# Altium schematic symbol library AMZ_Altium_Lib.SchLib: 396 symbols (part 1 of 3)
Pins are listed as number, name and electrical type; pins without a type are passive.

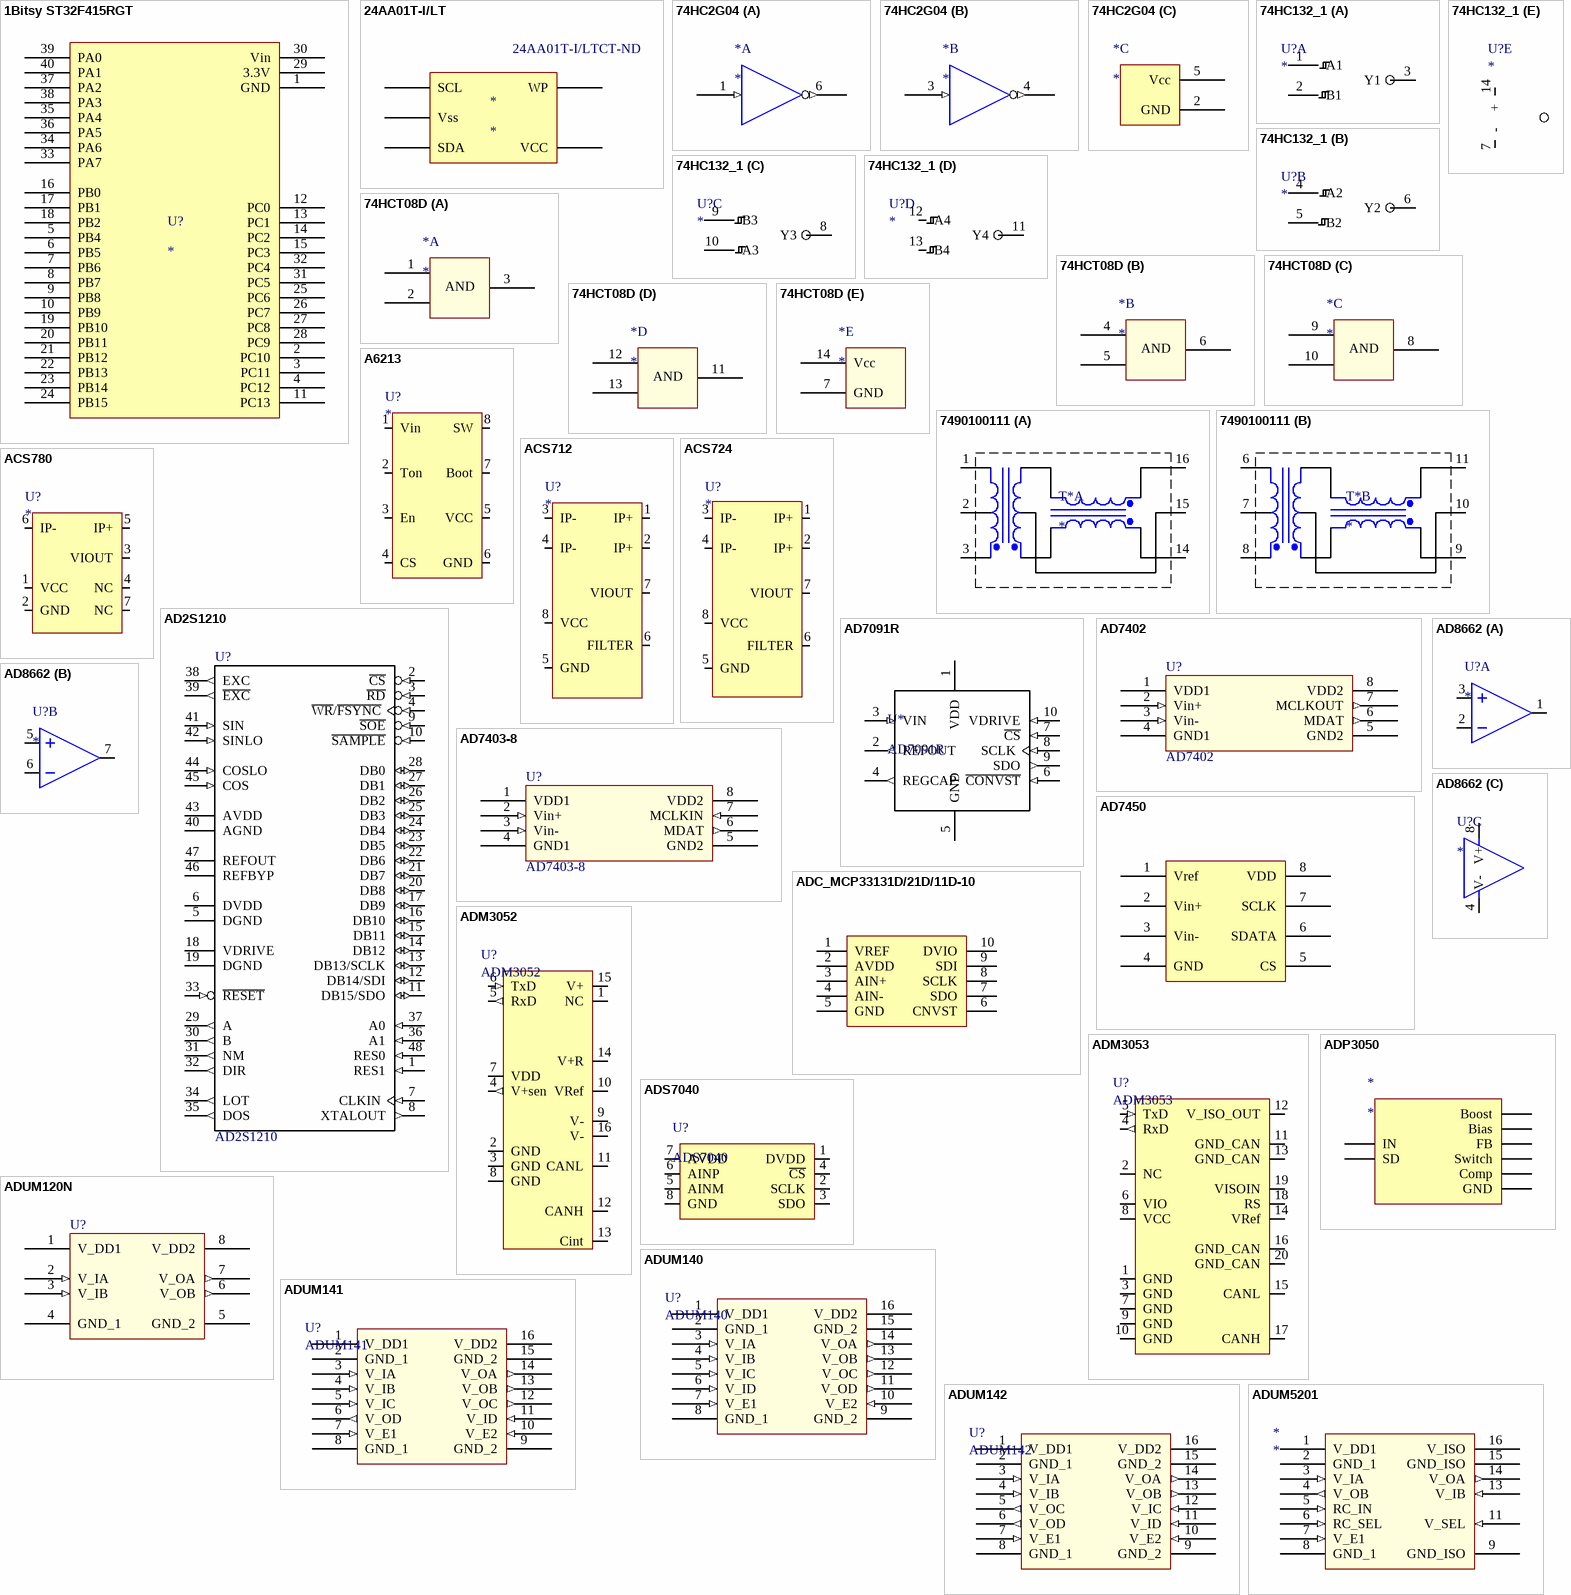
[diagram p0: symbols 1Bitsy ST32F415RGT to ADUM5201]

## 1Bitsy ST32F415RGT
designator U?
1Bitsy ST32F415RGT
footprint 1Bitsy (1Bitsy STM32F415RGT)
pins: 1 GND (power), 2 PC10, 3 PC11, 4 PC12, 5 PB4, 6 PB5, 7 PB6, 8 PB7, 9 PB8, 10 PB9, 11 PC13, 12 PC0, 13 PC1, 14 PC2, 15 PC3, 16 PB0, 17 PB1, 18 PB2, 19 PB10, 20 PB11, 21 PB12, 22 PB13, 23 PB14, 24 PB15, 25 PC6, 26 PC7, 27 PC8, 28 PC9, 29 3.3V (power), 30 Vin (power), 31 PC5, 32 PC4, 33 PA7, 34 PA6, 35 PA4, 36 PA5, 37 PA2, 38 PA3, 39 PA0, 40 PA1

## 24AA01T-I/LT
designator *  Supplier Part Number 1: 24AA01T-I/LTCT-ND
IC EEPROM 1KBIT 400KHZ SC70-5; Manufacturer: Microchip Technology; Manufacturer Part Number: 24AA01T-I/LT; Format - Memory: EEPROMs - Serial; Memory Size: 1K (128 x 8); Speed: 100kHz, 400kHz; Interface: I²C, 2-Wire Serial; Voltage - Supply: 1.7 V ~ 5.5 V; Supplier 1: Digi-Key; RoHS: RoHS Compliant; Category: Integrated Circuits (ICs); Stock 1: 4961; Pricing 1: 1=0.22, 25=0.21, 100=0.2 (USD); Packaging: Cut Tape (CT); Memory Type: EEPROM; Operating Temperature: -40°C ~ 85°C; Package / Case: 5-TSSOP, SC-70-5, SOT-353; Supplier Device Package: SC-70-5; ComponentLink1URL: http://www.microchip.com/mymicrochip/filehandler.aspx?ddocname=en011831; ComponentLink1Description: http://www.microchip.com/mymicrochip/filehandler.aspx?ddocname=en011831
pins: 1 SCL, 2 Vss, 3 SDA, 4 VCC, 5 WP

## 74HC2G04
designator *
3D model Model Name (Model Description)
simulation model Model Name (Model Description)
ibis Model Name (Model Description)
ibis Model Name (Model Description)
ibis Model Name (Model Description)
signal-integrity model Model Name (Model Description)
part A pins: 1 (in), 6 (out)
part B pins: 3 (in), 4 (out)
part C pins: 2 GND (power), 5 Vcc (power)

## 74HC132_1
designator U?
footprint SO-14
part A pins: 1 A1, 2 B1, 3 Y1
part B pins: 4 A2, 5 B2, 6 Y2
part C pins: 8 Y3, 9 B3, 10 A3
part D pins: 11 Y4, 12 A4, 13 B4
part E pins: 7 -, 14 +

## 74HCT08D
designator *
part A pins: 1 101 (power), 2 102 (power), 3 103 (power)
part B pins: 4 101 (power), 5 102 (power), 6 103 (power)
part C pins: 8 103 (power), 9 101 (power), 10 102 (power)
part D pins: 11 103 (power), 12 101 (power), 13 102 (power)
part E pins: 7 GND (power), 14 Vcc (power)
part A text: AND
part B text: AND
part C text: AND
part D text: AND

## 7490100111
designator T*
part A pins: 1 TD+, 2 CTD, 3 TD-, 14 TX-, 15 CTX, 16 TX+
part B pins: 6 RD+, 7 CRD, 8 RD-, 9 RX-, 10 CRX, 11 RX+

## A6213
designator U?
Allegro A6213 3A LED Driver
footprint SOIC8
pins: 1 Vin, 2 Ton, 3 En, 4 CS, 5 VCC, 6 GND, 7 Boot, 8 SW

## ACS712
designator U?
Strommessung
pins: 1 IP+, 2 IP+, 3 IP-, 4 IP-, 5 GND, 6 FILTER, 7 VIOUT, 8 VCC

## ACS724
designator U?
Strommessung
pins: 1 IP+, 2 IP+, 3 IP-, 4 IP-, 5 GND, 6 FILTER, 7 VIOUT, 8 VCC

## ACS780
designator U?
Strommessung
footprint 7-PIN_PSOF
pins: 1 VCC, 2 GND, 3 VIOUT, 4 NC, 5 IP+, 6 IP-, 7 NC

## AD2S1210
designator U?
Variable Resolution, 10-Bit to 16-Bit R/D Converter with Reference Oscillator
footprint LQFP48_0.5
pins: 1 RES1 (in), 2 ~{CS} (in), 3 ~{RD} (in), 4 ~{WR}/~{FSYNC} (in), 5 DGND (power), 6 DVDD (power), 7 CLKIN (in), 8 XTALOUT (out), 9 ~{SOE} (in), 10 ~{SAMPLE} (in), 11 DB15/SDO (io), 12 DB14/SDI (io), 13 DB13/SCLK (io), 14 DB12 (io), 15 DB11 (io), 16 DB10 (io), 17 DB9 (io), 18 VDRIVE (power), 19 DGND (power), 20 DB8 (io), 21 DB7 (io), 22 DB6 (io), 23 DB5 (io), 24 DB4 (io), 25 DB3 (io), 26 DB2 (io), 27 DB1 (io), 28 DB0 (io), 29 A (out), 30 B (out), 31 NM (out), 32 DIR (out), 33 ~{RESET} (in), 34 LOT (out), 35 DOS (out), 36 A1 (in), 37 A0 (in), 38 EXC (out), 39 ~{EXC} (out), 40 AGND (power), 41 SIN (in), 42 SINLO (in), 43 AVDD (power), 44 COSLO (in), 45 COS (in), 46 REFBYP (power), 47 REFOUT (power), 48 RES0 (in)

## AD7091R
designator U*
1 MSPS, Ultralow Power, 12-Bit ADC in 10-Lead LFCSP and MSOP
footprint MSOP-10_0.5 (MSOP with 0.5mm pin spacing)
footprint LFCSP-10 (MSOP with 0.5mm pin spacing)
pins: 1 VDD, 2 REFOUT (out), 3 VIN (in), 4 REGCAP (out), 5 GND, 6 ~{CONVST} (in), 7 ~{CS} (in), 8 SCLK (in), 9 SDO (out), 10 VDRIVE (in)

## AD7402
designator U?
16 Bit, / Isolated Sigma / Delta Modulator; ComponentLink1Description: Datasheet; ComponentLink1URL: https://www.analog.com/media/en/technical-documentation/data-sheets/AD7402.pdf
footprint SOIC-8-IC
pins: 1 VDD1, 2 Vin+ (in), 3 Vin- (in), 4 GND1, 5 GND2, 6 MDAT (out), 7 MCLKOUT (out), 8 VDD2

## AD7403-8
designator U?
16 Bit, / Isolated Sigma / Delta Modulator; ComponentLink1Description: Datasheet; ComponentLink1URL: https://www.analog.com/media/en/technical-documentation/data-sheets/AD7402.pdf
footprint SOIC-8-IC
pins: 1 VDD1, 2 Vin+ (in), 3 Vin- (in), 4 GND1, 5 GND2, 6 MDAT (out), 7 MCLKIN (in), 8 VDD2

## AD7450
designator P?
Differential Input, 1 MSPS / 12-Bit ADC in /  / SOIC-8 and SO-8
footprint HEADER_84_versetzt (Header 84 Pin 100mil)
pins: 1 Vref, 2 Vin+, 3 Vin-, 4 GND, 5 CS, 6 SDATA, 7 SCLK, 8 VDD

## AD8662
designator U?
AD8662
footprint SOIC8
part A pins: 1 Out D, 2 -In D, 3 +In D
part B pins: 5 +In D, 6 -In D, 7 Out D
part C pins: 4 V-, 8 V+

## ADC_MCP33131D/21D/11D-10
designator P?
1 Msps 16/14/12-Bit Differential Input SAR / ADC; ComponentLink1Description: Datasheet; ComponentLink1URL: https://www.mouser.com/datasheet/2/268/MCP33131D_21D_11D-10-Data-Sheet-DS20005947A-1316613.pdf
footprint MSOP-10_0.5 (MSOP with 0.5mm pin spacing)
pins: 1 VREF, 2 AVDD, 3 AIN+, 4 AIN-, 5 GND, 6 CNVST, 7 SDO, 8 SCLK, 9 SDI, 10 DVIO

## ADM3052
designator U?
Isolated CAN Transceiver with Integrated High Voltage, Bus-Side, Linear Regulator
footprint SOIC16_DW
pins: 1 NC, 2 GND (power), 3 GND (power), 4 V+sen (out), 5 RxD (out), 6 TxD (in), 7 VDD (power), 8 GND (power), 9 V- (power), 10 VRef, 11 CANL (io), 12 CANH (io), 13 Cint, 14 V+R (power), 15 V+ (power), 16 V- (power)

## ADM3053
designator U?
Signal and Power Isolated CAN Transceiver / with Integrated Isolated DC-to-DC Converter
footprint SOIC20_DW
pins: 1 GND (power), 2 NC, 3 GND (power), 4 RxD (out), 5 TxD (in), 6 VIO (power), 7 GND (power), 8 VCC (power), 9 GND (power), 10 GND (power), 11 GND_CAN (power), 12 V_ISO_OUT (power), 13 GND_CAN (power), 14 VRef, 15 CANL (io), 16 GND_CAN (power), 17 CANH (io), 18 RS (power), 19 VISOIN (power), 20 GND_CAN (power)

## ADP3050
designator *
footprint SOIC8
pins: 1 Switch, 2 Boost, 3 Bias, 4 FB, 5 Comp, 6 SD, 7 GND, 8 IN

## ADS7040
designator U?
Ultra-Low Power, Ultra-Small Size, 8-Bit, 1-MSPS, SAR ADC
footprint VSSOP8_DCU/DDU
pins: 1 DVDD, 2 SCLK, 3 SDO, 4 ~{CS}, 5 AINM, 6 AINP, 7 AVDD, 8 GND

## ADUM120N
designator U?
2 Channels Digital Isolator; ComponentLink1Description: Datasheet; ComponentLink1URL: https://www.analog.com/media/en/technical-documentation/data-sheets/ADuM120N_121N.pdf
footprint SOIC8
pins: 1 V_DD1, 2 V_IA (in), 3 V_IB (in), 4 GND_1, 5 GND_2, 6 V_OB (out), 7 V_OA (out), 8 V_DD2

## ADUM140
designator U?
3.0 kV RMS/3.75 kV RMS  Quad Digital Isolators
footprint SOIC16_DW
pins: 1 V_DD1, 2 GND_1, 3 V_IA (in), 4 V_IB (in), 5 V_IC (in), 6 V_ID (in), 7 V_E1 (in), 8 GND_1, 9 GND_2, 10 V_E2 (in), 11 V_OD (out), 12 V_OC (out), 13 V_OB (out), 14 V_OA (out), 15 GND_2, 16 V_DD2

## ADUM141
designator U?
3.0 kV RMS/3.75 kV RMS  Quad Digital Isolators
footprint SOIC16_DW
pins: 1 V_DD1, 2 GND_1, 3 V_IA (in), 4 V_IB (in), 5 V_IC (in), 6 V_OD (out), 7 V_E1 (in), 8 GND_1, 9 GND_2, 10 V_E2 (in), 11 V_ID (in), 12 V_OC (out), 13 V_OB (out), 14 V_OA (out), 15 GND_2, 16 V_DD2

## ADUM142
designator U?
3.0 kV RMS/3.75 kV RMS  Quad Digital Isolators
footprint SOIC16_DW
pins: 1 V_DD1, 2 GND_1, 3 V_IA (in), 4 V_IB (in), 5 V_OC (out), 6 V_OD (out), 7 V_E1 (in), 8 GND_1, 9 GND_2, 10 V_E2 (in), 11 V_ID (in), 12 V_IC (in), 13 V_OB (out), 14 V_OA (out), 15 GND_2, 16 V_DD2

## ADUM5201
designator *
footprint SOIC_W
pins: 1 V_DD1, 2 GND_1, 3 V_IA (in), 4 V_OB (out), 5 RC_IN (in), 6 RC_SEL (in), 7 V_E1 (in), 8 GND_1, 9 GND_ISO, 11 V_SEL (in), 13 V_IB (in), 14 V_OA (out), 15 GND_ISO, 16 V_ISO

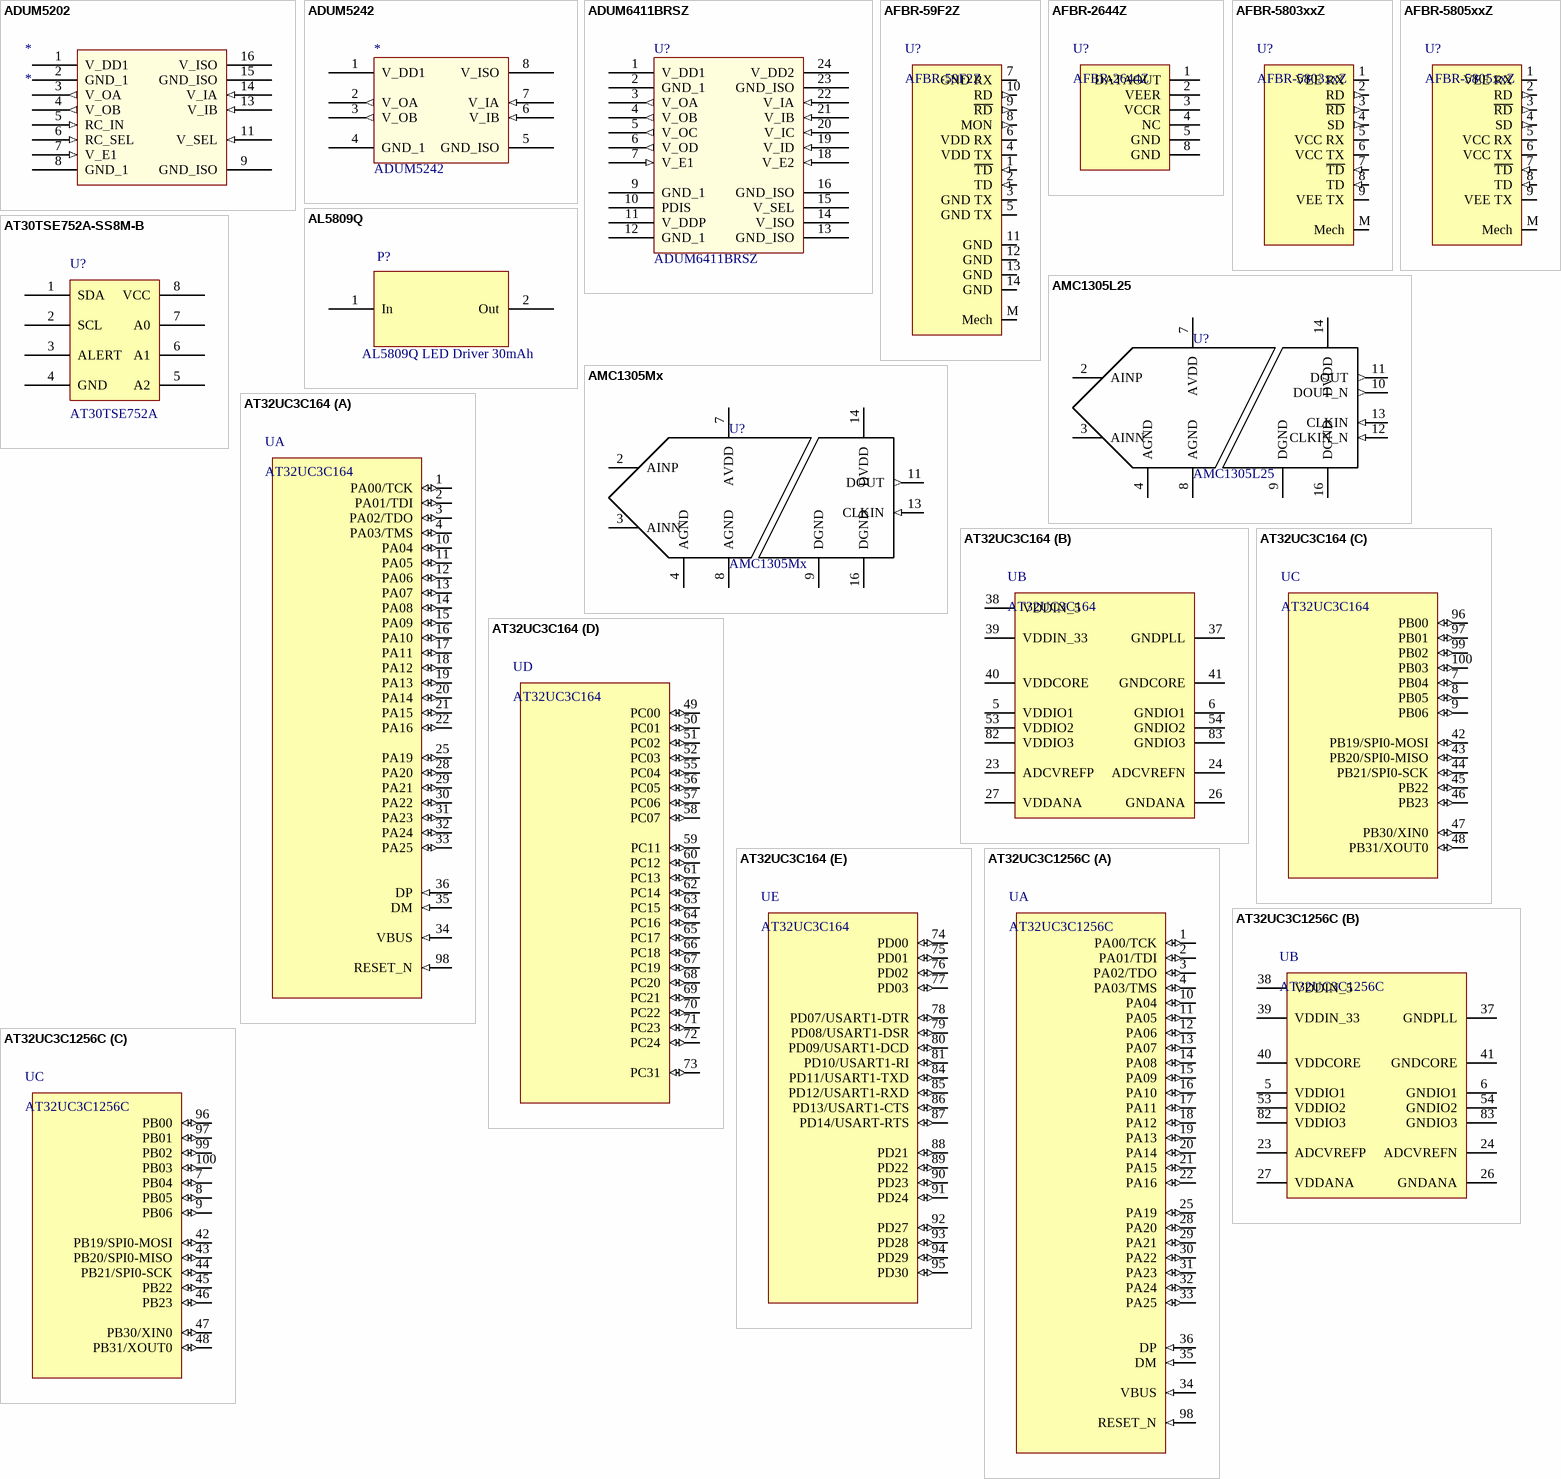
[diagram p1: symbols ADUM5202 to AT32UC3C1256C]

## ADUM5202
designator *
pins: 1 V_DD1, 2 GND_1, 3 V_OA (out), 4 V_OB (out), 5 RC_IN (in), 6 RC_SEL (in), 7 V_E1 (in), 8 GND_1, 9 GND_ISO, 10 NC hidden, 11 V_SEL (in), 12 NC hidden, 13 V_IB (in), 14 V_IA (in), 15 GND_ISO, 16 V_ISO

## ADUM5242
designator *
footprint SOIC8
pins: 1 V_DD1, 2 V_OA (out), 3 V_OB (out), 4 GND_1, 5 GND_ISO, 6 V_IB (in), 7 V_IA (in), 8 V_ISO

## ADUM6411BRSZ
designator U?
footprint SSOP-24
pins: 1 V_DD1, 2 GND_1, 3 V_OA (out), 4 V_OB (out), 5 V_OC (out), 6 V_OD (out), 7 V_E1 (in), 9 GND_1, 10 PDIS, 11 V_DDP, 12 GND_1, 13 GND_ISO, 14 V_ISO, 15 V_SEL, 16 GND_ISO, 18 V_E2 (in), 19 V_ID (in), 20 V_IC (in), 21 V_IB (in), 22 V_IA (in), 23 GND_ISO, 24 V_DD2

## AFBR-59F2Z
designator U?
250MBd Compact 650nm Transceiver for / Data communication over Polymer Optical Fiber / (POF) cables with a bare fiber locking system
footprint AFBR-59F (Transceiver for Data communication over Polymer Optical Fiber (POF) cables with a bare fiber locking system)
pins: 1 ~{TD} (in), 2 TD (in), 3 GND TX (power), 4 VDD TX (power), 5 GND TX (power), 6 VDD RX (power), 7 GND RX (power), 8 MON (out), 9 ~{RD} (out), 10 RD (out), 11 GND (power), 12 GND (power), 13 GND (power), 14 GND (power), M Mech

## AFBR-2644Z
designator U?
DC to 50 Megabaud Versatile Link Receiver, 30° Tilted Package; ComponentLink1Description: Website; ComponentLink1URL: https://www.broadcom.com/products/fiber-optic-modules-components/industrial/industrial-control-general-purpose/650nm/afbr-2644z
footprint ABFR-16xxZ (DC-50MBd Versatile Link Fiber Optic Transmitter  and Receiver for 1 mm POF and 200 ?m PCS)
pins: 1 DATAOUT, 2 VEER, 3 VCCR, 4 NC, 5 GND, 8 GND

## AFBR-5803xxZ
designator U?
FDDI, 100 Mb/s ATM, and Fast Ethernet Transceivers in / Low-Cost 1 × 9 Package Style
footprint Avago_1x9_SC
footprint Avago_1x9_ST
pins: 1 VEE RX (power), 2 RD (out), 3 ~{RD} (out), 4 SD (out), 5 VCC RX (power), 6 VCC TX (power), 7 ~{TD} (in), 8 TD (in), 9 VEE TX (power), M Mech

## AFBR-5805xxZ
designator U?
ATM Transceivers for SONET OC-3 / SDH STM-1 / in Low Cost 1 x 9 Package Style
footprint Avago_1x9_SC
footprint Avago_1x9_ST
pins: 1 VEE RX (power), 2 RD (out), 3 ~{RD} (out), 4 SD (out), 5 VCC RX (power), 6 VCC TX (power), 7 ~{TD} (in), 8 TD (in), 9 VEE TX (power), M Mech

## AL5809Q
designator P?, comment AL5809Q LED Driver 30mAh
pins: 1 In, 2 Out

## AMC1305L25
designator U?
High-Precision, Reinforced Isolated Delta-Sigma Modulator
footprint SOIC_16_DW_HV
footprint SOIC16_DW
pins: 2 AINP, 3 AINN, 4 AGND, 7 AVDD, 8 AGND, 9 DGND, 10 DOUT_N (out), 11 DOUT (out), 12 CLKIN_N (in), 13 CLKIN (in), 14 DVDD, 16 DGND

## AMC1305Mx
designator U?
High-Precision, Reinforced Isolated Delta-Sigma Modulator
footprint SOIC16_DW
footprint SOIC_16_DW_HV
pins: 2 AINP, 3 AINN, 4 AGND, 7 AVDD, 8 AGND, 9 DGND, 11 DOUT (out), 13 CLKIN (in), 14 DVDD, 16 DGND

## AT30TSE752A-SS8M-B
designator U?, comment AT30TSE752A
AT30TSE752A-SS8M-B
footprint SO-8
pins: 1 SDA, 2 SCL, 3 ALERT, 4 GND, 5 A2, 6 A1, 7 A0, 8 VCC (power)

## AT32UC3C164
designator U
32-bit AVR UC3 C Series Microcontroller, 64KB Flash, 16KB SRAM, 81 GPIO pins, Industrial Grade, 100-Pin TQFP, Tray
footprint TQFP100
part A pins: 1 PA00/TCK (io), 2 PA01/TDI (io), 3 PA02/TDO (io), 4 PA03/TMS (io), 10 PA04 (io), 11 PA05 (io), 12 PA06 (io), 13 PA07 (io), 14 PA08 (io), 15 PA09 (io), 16 PA10 (io), 17 PA11 (io), 18 PA12 (io), 19 PA13 (io), 20 PA14 (io), 21 PA15 (io), 22 PA16 (io), 25 PA19 (io), 28 PA20 (io), 29 PA21 (io), 30 PA22 (io), 31 PA23 (io), 32 PA24 (io), 33 PA25 (io), 34 VBUS (in), 35 DM (in), 36 DP (in), 98 RESET_N (in)
part B pins: 5 VDDIO1 (power), 6 GNDIO1 (power), 23 ADCVREFP (power), 24 ADCVREFN (power), 26 GNDANA (power), 27 VDDANA (power), 37 GNDPLL (power), 38 VDDIN_5 (power), 39 VDDIN_33 (power), 40 VDDCORE (power), 41 GNDCORE (power), 53 VDDIO2 (power), 54 GNDIO2 (power), 82 VDDIO3 (power), 83 GNDIO3 (power)
part C pins: 7 PB04 (io), 8 PB05 (io), 9 PB06 (io), 42 PB19/SPI0-MOSI (io), 43 PB20/SPI0-MISO (io), 44 PB21/SPI0-SCK (io), 45 PB22 (io), 46 PB23 (io), 47 PB30/XIN0 (io), 48 PB31/XOUT0 (io), 96 PB00 (io), 97 PB01 (io), 99 PB02 (io), 100 PB03 (io)
part D pins: 49 PC00 (io), 50 PC01 (io), 51 PC02 (io), 52 PC03 (io), 55 PC04 (io), 56 PC05 (io), 57 PC06 (io), 58 PC07 (io), 59 PC11 (io), 60 PC12 (io), 61 PC13 (io), 62 PC14 (io), 63 PC15 (io), 64 PC16 (io), 65 PC17 (io), 66 PC18 (io), 67 PC19 (io), 68 PC20 (io), 69 PC21 (io), 70 PC22 (io), 71 PC23 (io), 72 PC24 (io), 73 PC31 (io)
part E pins: 74 PD00 (io), 75 PD01 (io), 76 PD02 (io), 77 PD03 (io), 78 PD07/USART1-DTR (io), 79 PD08/USART1-DSR (io), 80 PD09/USART1-DCD (io), 81 PD10/USART1-RI (io), 84 PD11/USART1-TXD (io), 85 PD12/USART1-RXD (io), 86 PD13/USART1-CTS (io), 87 PD14/USART-RTS (io), 88 PD21 (io), 89 PD22 (io), 90 PD23 (io), 91 PD24 (io), 92 PD27 (io), 93 PD28 (io), 94 PD29 (io), 95 PD30 (io)

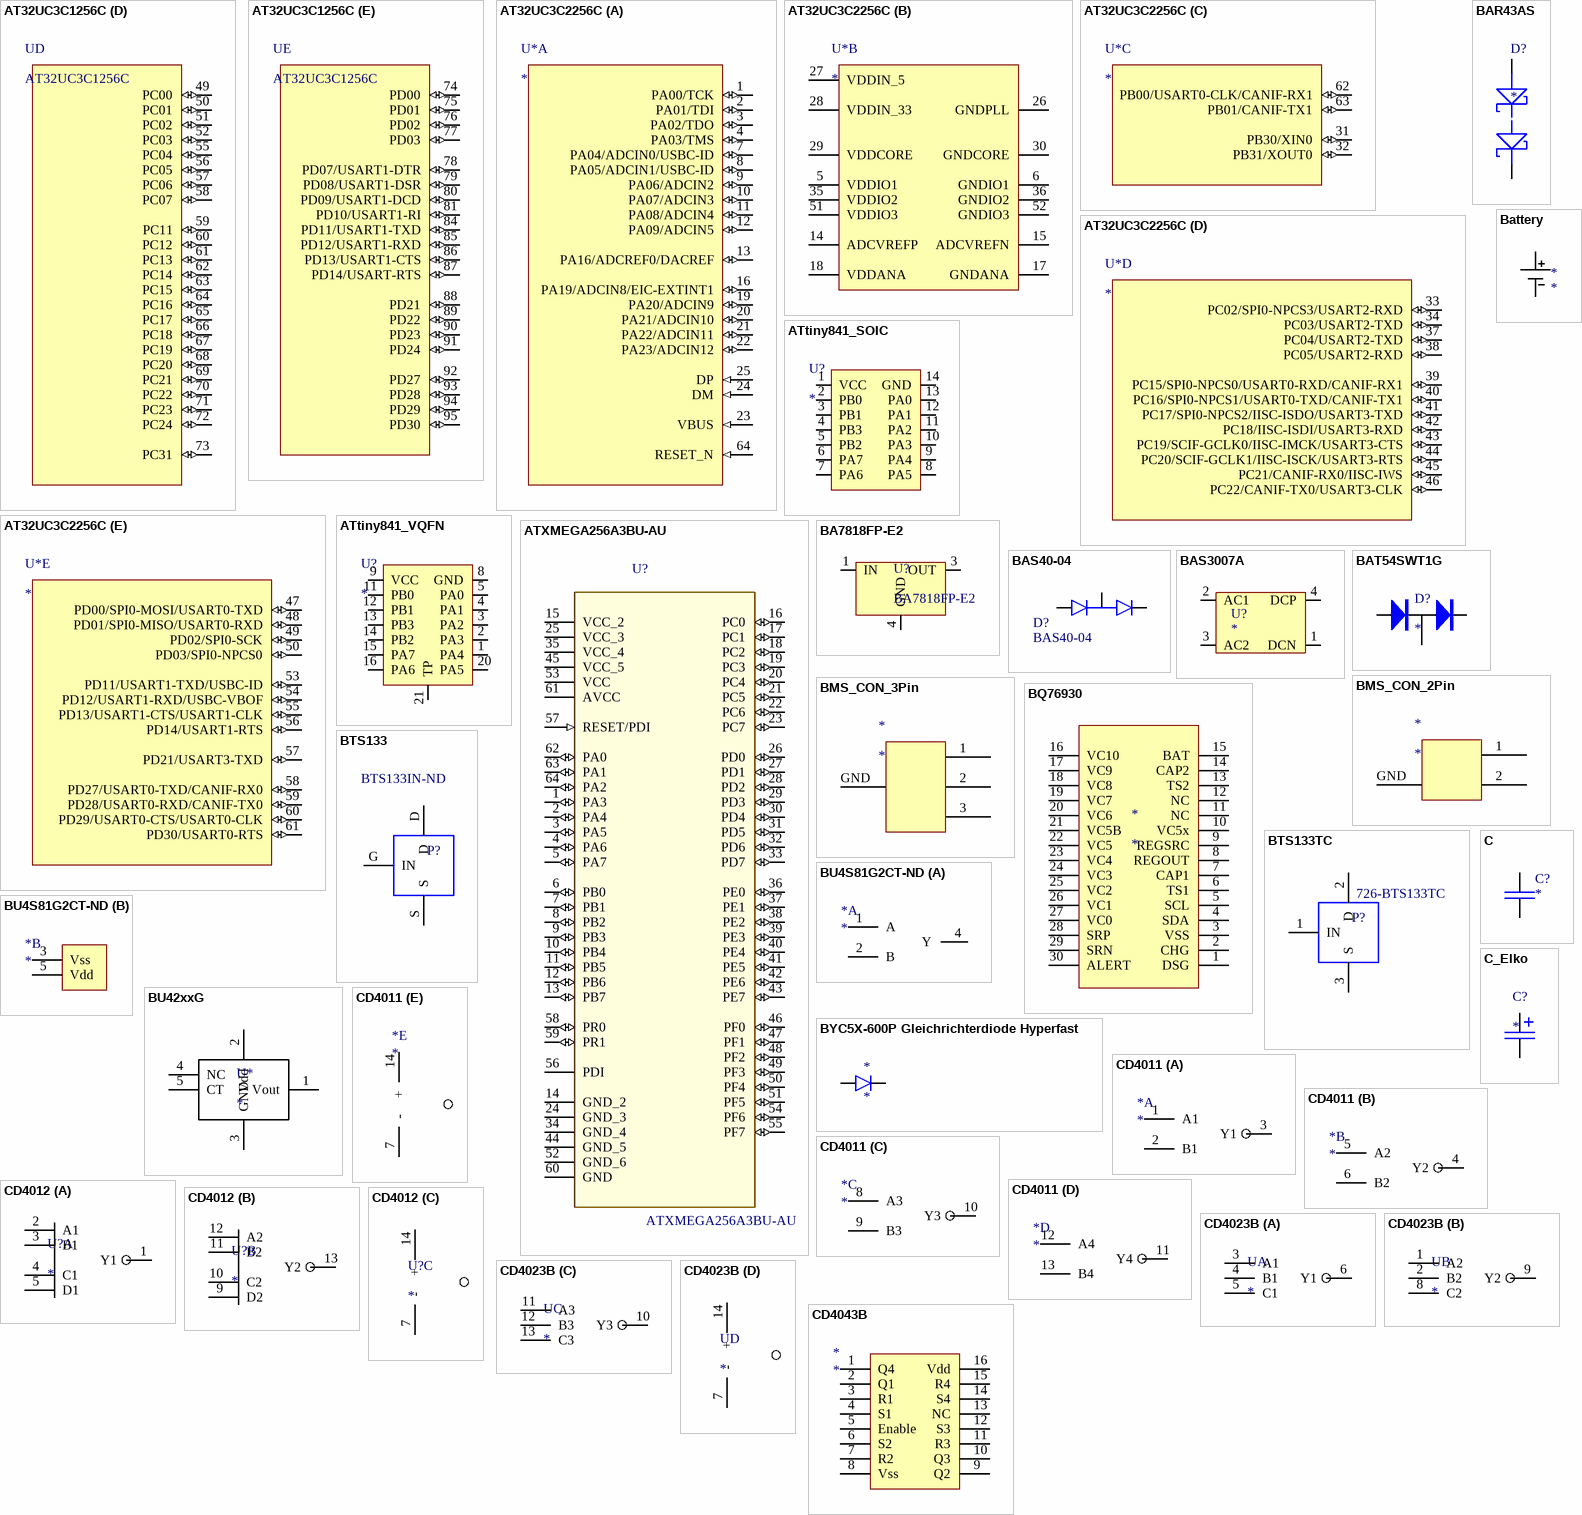
[diagram p2: symbols AT32UC3C1256C to CD4043B]

## AT32UC3C1256C
designator U
32-bit AVR UC3 C Series Microcontroller, 256KB Flash, 64KB SRAM, 81 GPIO pins, Industrial Grade, 100-Pin TQFP, Tray
footprint TQFP100
part A pins: 1 PA00/TCK (io), 2 PA01/TDI (io), 3 PA02/TDO (io), 4 PA03/TMS (io), 10 PA04 (io), 11 PA05 (io), 12 PA06 (io), 13 PA07 (io), 14 PA08 (io), 15 PA09 (io), 16 PA10 (io), 17 PA11 (io), 18 PA12 (io), 19 PA13 (io), 20 PA14 (io), 21 PA15 (io), 22 PA16 (io), 25 PA19 (io), 28 PA20 (io), 29 PA21 (io), 30 PA22 (io), 31 PA23 (io), 32 PA24 (io), 33 PA25 (io), 34 VBUS (in), 35 DM (in), 36 DP (in), 98 RESET_N (in)
part B pins: 5 VDDIO1 (power), 6 GNDIO1 (power), 23 ADCVREFP (power), 24 ADCVREFN (power), 26 GNDANA (power), 27 VDDANA (power), 37 GNDPLL (power), 38 VDDIN_5 (power), 39 VDDIN_33 (power), 40 VDDCORE (power), 41 GNDCORE (power), 53 VDDIO2 (power), 54 GNDIO2 (power), 82 VDDIO3 (power), 83 GNDIO3 (power)
part C pins: 7 PB04 (io), 8 PB05 (io), 9 PB06 (io), 42 PB19/SPI0-MOSI (io), 43 PB20/SPI0-MISO (io), 44 PB21/SPI0-SCK (io), 45 PB22 (io), 46 PB23 (io), 47 PB30/XIN0 (io), 48 PB31/XOUT0 (io), 96 PB00 (io), 97 PB01 (io), 99 PB02 (io), 100 PB03 (io)
part D pins: 49 PC00 (io), 50 PC01 (io), 51 PC02 (io), 52 PC03 (io), 55 PC04 (io), 56 PC05 (io), 57 PC06 (io), 58 PC07 (io), 59 PC11 (io), 60 PC12 (io), 61 PC13 (io), 62 PC14 (io), 63 PC15 (io), 64 PC16 (io), 65 PC17 (io), 66 PC18 (io), 67 PC19 (io), 68 PC20 (io), 69 PC21 (io), 70 PC22 (io), 71 PC23 (io), 72 PC24 (io), 73 PC31 (io)
part E pins: 74 PD00 (io), 75 PD01 (io), 76 PD02 (io), 77 PD03 (io), 78 PD07/USART1-DTR (io), 79 PD08/USART1-DSR (io), 80 PD09/USART1-DCD (io), 81 PD10/USART1-RI (io), 84 PD11/USART1-TXD (io), 85 PD12/USART1-RXD (io), 86 PD13/USART1-CTS (io), 87 PD14/USART-RTS (io), 88 PD21 (io), 89 PD22 (io), 90 PD23 (io), 91 PD24 (io), 92 PD27 (io), 93 PD28 (io), 94 PD29 (io), 95 PD30 (io)

## AT32UC3C2256C
designator U*
32-bit AVR UC3 C Series Microcontroller, 256KB Flash, 64KB SRAM, 45 GPIO pins, 64-Pin TQFP, Tray
footprint QFN64
part A pins: 1 PA00/TCK (io), 2 PA01/TDI (io), 3 PA02/TDO (io), 4 PA03/TMS (io), 7 PA04/ADCIN0/USBC-ID (io), 8 PA05/ADCIN1/USBC-ID (io), 9 PA06/ADCIN2 (io), 10 PA07/ADCIN3 (io), 11 PA08/ADCIN4 (io), 12 PA09/ADCIN5 (io), 13 PA16/ADCREF0/DACREF (io), 16 PA19/ADCIN8/EIC-EXTINT1 (io), 19 PA20/ADCIN9 (io), 20 PA21/ADCIN10 (io), 21 PA22/ADCIN11 (io), 22 PA23/ADCIN12 (io), 23 VBUS (in), 24 DM (in), 25 DP (in), 64 RESET_N (in)
part B pins: 5 VDDIO1 (power), 6 GNDIO1 (power), 14 ADCVREFP (power), 15 ADCVREFN (power), 17 GNDANA (power), 18 VDDANA (power), 26 GNDPLL (power), 27 VDDIN_5 (power), 28 VDDIN_33 (power), 29 VDDCORE (power), 30 GNDCORE (power), 35 VDDIO2 (power), 36 GNDIO2 (power), 51 VDDIO3 (power), 52 GNDIO3 (power)
part C pins: 31 PB30/XIN0 (io), 32 PB31/XOUT0 (io), 62 PB00/USART0-CLK/CANIF-RX1 (io), 63 PB01/CANIF-TX1 (io)
part D pins: 33 PC02/SPI0-NPCS3/USART2-RXD (io), 34 PC03/USART2-TXD (io), 37 PC04/USART2-TXD (io), 38 PC05/USART2-RXD (io), 39 PC15/SPI0-NPCS0/USART0-RXD/CANIF-RX1 (io), 40 PC16/SPI0-NPCS1/USART0-TXD/CANIF-TX1 (io), 41 PC17/SPI0-NPCS2/IISC-ISDO/USART3-TXD (io), 42 PC18/IISC-ISDI/USART3-RXD (io), 43 PC19/SCIF-GCLK0/IISC-IMCK/USART3-CTS (io), 44 PC20/SCIF-GCLK1/IISC-ISCK/USART3-RTS (io), 45 PC21/CANIF-RX0/IISC-IWS (io), 46 PC22/CANIF-TX0/USART3-CLK (io)
part E pins: 47 PD00/SPI0-MOSI/USART0-TXD (io), 48 PD01/SPI0-MISO/USART0-RXD (io), 49 PD02/SPI0-SCK (io), 50 PD03/SPI0-NPCS0 (io), 53 PD11/USART1-TXD/USBC-ID (io), 54 PD12/USART1-RXD/USBC-VBOF (io), 55 PD13/USART1-CTS/USART1-CLK (io), 56 PD14/USART1-RTS (io), 57 PD21/USART3-TXD (io), 58 PD27/USART0-TXD/CANIF-RX0 (io), 59 PD28/USART0-RXD/CANIF-TX0 (io), 60 PD29/USART0-CTS/USART0-CLK (io), 61 PD30/USART0-RTS (io)

## ATtiny841_SOIC
designator U?
footprint SO-14
pins: 1 VCC, 2 PB0, 3 PB1, 4 PB3, 5 PB2, 6 PA7, 7 PA6, 8 PA5, 9 PA4, 10 PA3, 11 PA2, 12 PA1, 13 PA0, 14 GND

## ATtiny841_VQFN
designator U?
footprint 20M2_VQFN (QFN, 20-Leads, Body 3x3mm, Pitch 0.45mm, IPC High Density)
pins: 1 PA4, 2 PA3, 3 PA2, 4 PA1, 5 PA0, 8 GND, 9 VCC, 11 PB0, 12 PB1, 13 PB3, 14 PB2, 15 PA7, 16 PA6, 20 PA5, 21 TP

## ATXMEGA256A3BU-AU
designator U?
XMEGA Series 32 MHz 256 KB Flash 16 KB SRAM 8/16-Bit Microcontroller - TQFP-64; MF: Atmel; Availability: Good; Package: TQFP-64 Atmel; Price: 7.11 USD; MP: ATXMEGA256A3BU-AU; Value: *
footprint QFP80P1600X1600X120-64N
pins: 1 PA3 (io), 2 PA4 (io), 3 PA5 (io), 4 PA6 (io), 5 PA7 (io), 6 PB0 (io), 7 PB1 (io), 8 PB2 (io), 9 PB3 (io), 10 PB4 (io), 11 PB5 (io), 12 PB6 (io), 13 PB7 (io), 14 GND_2, 15 VCC_2 (power), 16 PC0 (io), 17 PC1 (io), 18 PC2 (io), 19 PC3 (io), 20 PC4 (io), 21 PC5 (io), 22 PC6 (io), 23 PC7 (io), 24 GND_3, 25 VCC_3 (power), 26 PD0 (io), 27 PD1 (io), 28 PD2 (io), 29 PD3 (io), 30 PD4 (io), 31 PD5 (io), 32 PD6 (io), 33 PD7 (io), 34 GND_4, 35 VCC_4 (power), 36 PE0 (io), 37 PE1 (io), 38 PE2 (io), 39 PE3 (io), 40 PE4 (io), 41 PE5 (io), 42 PE6 (io), 43 PE7 (io), 44 GND_5, 45 VCC_5 (power), 46 PF0 (io), 47 PF1 (io), 48 PF2 (io), 49 PF3 (io), 50 PF4 (io), 51 PF5 (io), 52 GND_6, 53 VCC (power), 54 PF6 (io), 55 PF7 (io), 56 PDI, 57 RESET/PDI (in), 58 PR0 (io), 59 PR1 (io), 60 GND, 61 AVCC (power), 62 PA0 (io), 63 PA1 (io), 64 PA2 (io)

## BA7818FP-E2
designator U?
1A Output 78 series Regulators 18V
footprint TO-252AA (D-PAK, 4-Leads, Body 6.1x6.5mm, Pitch 2.28mm, Lead Span 9.9mm, IPC Low Density)
pins: 1 IN, 3 OUT, 4 GND

## BAR43AS
designator D?
footprint SOT-23; pin to pad 1>G 2>S 3>D
pins: 1 A, 2 K, 3 AK

## BAS40-04
designator D?
VISHAY SEMICONDUCTOR - BAS40-04-V-GS08 - DIODE, SCHOTTKY, 0.2A, 40V; Distributor: Farnell; Package: SOT-23; Distributor Nr.: 1617726; Value: BAS40-04
footprint SOT-23
pins: 1 A, 2 K, 3 C

## BAS3007A
designator U?
footprint SOT143_L (SOT143, 4-Leads, Body 2.9x1.3mm, Pitch 1.9mm, Lead Span 2.3mm, IPC High Density)
pins: 1 DCN, 2 AC1, 3 AC2, 4 DCP

## BAT54SWT1G
designator D?
On Semiconductor Dual Series Schottky / Barrier Diodes
footprint SOT-323 (Footprint not found)
pins: 1, 2, 3

## Battery
designator *
footprint BAT_CR1225_SMD_RENATA (Battery holder CR1225 SMD RENATA SMTU1225-LF)
footprint BAT_CR1216_MFR_SM_RENATA (Coin Cell Battery CR1216 2 PIN HORIZ SMT 25mAh RENATA)
pins: 1 +, 2 -

## BMS_CON_2Pin
designator *
pins: 1 (power), 2 (power), GND (power)

## BMS_CON_3Pin
designator *
pins: 1 (power), 2 (power), 3 (power), GND (power)

## BQ76930
designator *
footprint TSSOP30
pins: 1 DSG, 2 CHG, 3 VSS, 4 SDA, 5 SCL, 6 TS1, 7 CAP1, 8 REGOUT, 9 REGSRC, 10 VC5x, 11 NC, 12 NC, 13 TS2, 14 CAP2, 15 BAT, 16 VC10, 17 VC9, 18 VC8, 19 VC7, 20 VC6, 21 VC5B, 22 VC5, 23 VC4, 24 VC3, 25 VC2, 26 VC1, 27 VC0, 28 SRP, 29 SRN, 30 ALERT

## BTS133
designator P?  Supplier Part Number 2: BTS133IN-ND
Supplier 1: Mouser; Supplier 2: Digi-Key; Supplier Part Number 1: 726-BTS133
footprint TO-220
pins: D, G IN, S

## BTS133TC
designator P?  Supplier Part Number 2: 726-BTS133TC
Supplier 1: Mouser; Supplier 2: Mouser
footprint TO-263-3-2
pins: 1 IN, 2 D, 3 S

## BU4S81G2CT-ND
designator *
Single 2-Input AND Gate
footprint SSOP5
footprint SSOP5
part A pins: 1 A, 2 B, 4 Y
part B pins: 3 Vss, 5 Vdd

## BU42xxG
designator U*
Low Voltage Free Delay Time Setting  CMOS Voltage Detector IC Series
footprint SOT23-5
pins: 1 Vout (oc), 2 Vdd (power), 3 GND (power), 4 NC, 5 CT

## BYC5X-600P Gleichrichterdiode Hyperfast
designator *
footprint BYC5X-600P (Gleichriterdiode Hyperfast)
pins: A, K

## C
designator C?
footprint 0805
footprint C_TDK_B32776G5456 (Metalized Polypropylene Film Capacitor (MKP) TDK B32776G5456)
footprint 0603
footprint 1206
footprint 1210
footprint C_FILM_RM_15mm (Folienkondensator RM 15mm)
footprint C_FILM_RM_22.5mm (Folienkondensator RM 22.5mm)
footprint C_FILM_RM_15_22.5mm (Folienkondensator RM 15 and 22.5mm)
footprint 0805_S
footprint C_TDK_B32678J4606 (Metalized Polypropylene Film Capacitor (MKP) TDK B32678J4606)
footprint C_TDK_B32776P6106 (Metalized Polypropylene Film Capacitor (MKP) TDK B32776P6106)
footprint 2917
footprint C_0603_S
footprint C_0805
footprint C_0805_S
pins: 1, 2

## C_Elko
designator C?
footprint C_TDK_B58033 (TDK CeraLink Capacitor for fast-switching semiconductors)
footprint C_ELKO_SMD_10x10_12.4 (Electrolyt capacitor, SMD, 10x10mm, Height 12.4mm)
footprint C_TDK_B58031_L (TDK CeraLink Capacitors L-style terminal)
footprint C_TDK_B58031_J (TDK CeraLink Capacitors J-style terminal)
footprint C_ELKO_SMD_6.6x6.6_7.7 (Electrolyt capacitor, SMD, 6.6x6.6mm Height 7.7mm)
footprint C_THD_30MM_10MM_35MM (Elko THD Diameter 30mm Lochabstand 10mm)
pins: 1, 2

## CD4011
designator *
footprint SO-14
part A pins: 1 A1, 2 B1, 3 Y1
part B pins: 4 Y2, 5 A2, 6 B2
part C pins: 8 A3, 9 B3, 10 Y3
part D pins: 11 Y4, 12 A4, 13 B4
part E pins: 7 -, 14 +

## CD4012
designator U?
Supplier 1: Digi-Key
part A pins: 1 Y1, 2 A1, 3 B1, 4 C1, 5 D1
part B pins: 9 D2, 10 C2, 11 B2, 12 A2, 13 Y2
part C pins: 7 -, 14 +

## CD4023B
designator U
part A pins: 3 A1, 4 B1, 5 C1, 6 Y1
part B pins: 1 A2, 2 B2, 8 C2, 9 Y2
part C pins: 10 Y3, 11 A3, 12 B3, 13 C3
part D pins: 7 -, 14 +

## CD4043B
designator *
pins: 1 Q4, 2 Q1, 3 R1, 4 S1, 5 Enable, 6 S2, 7 R2, 8 Vss, 9 Q2, 10 Q3, 11 R3, 12 S3, 13 NC, 14 S4, 15 R4, 16 Vdd

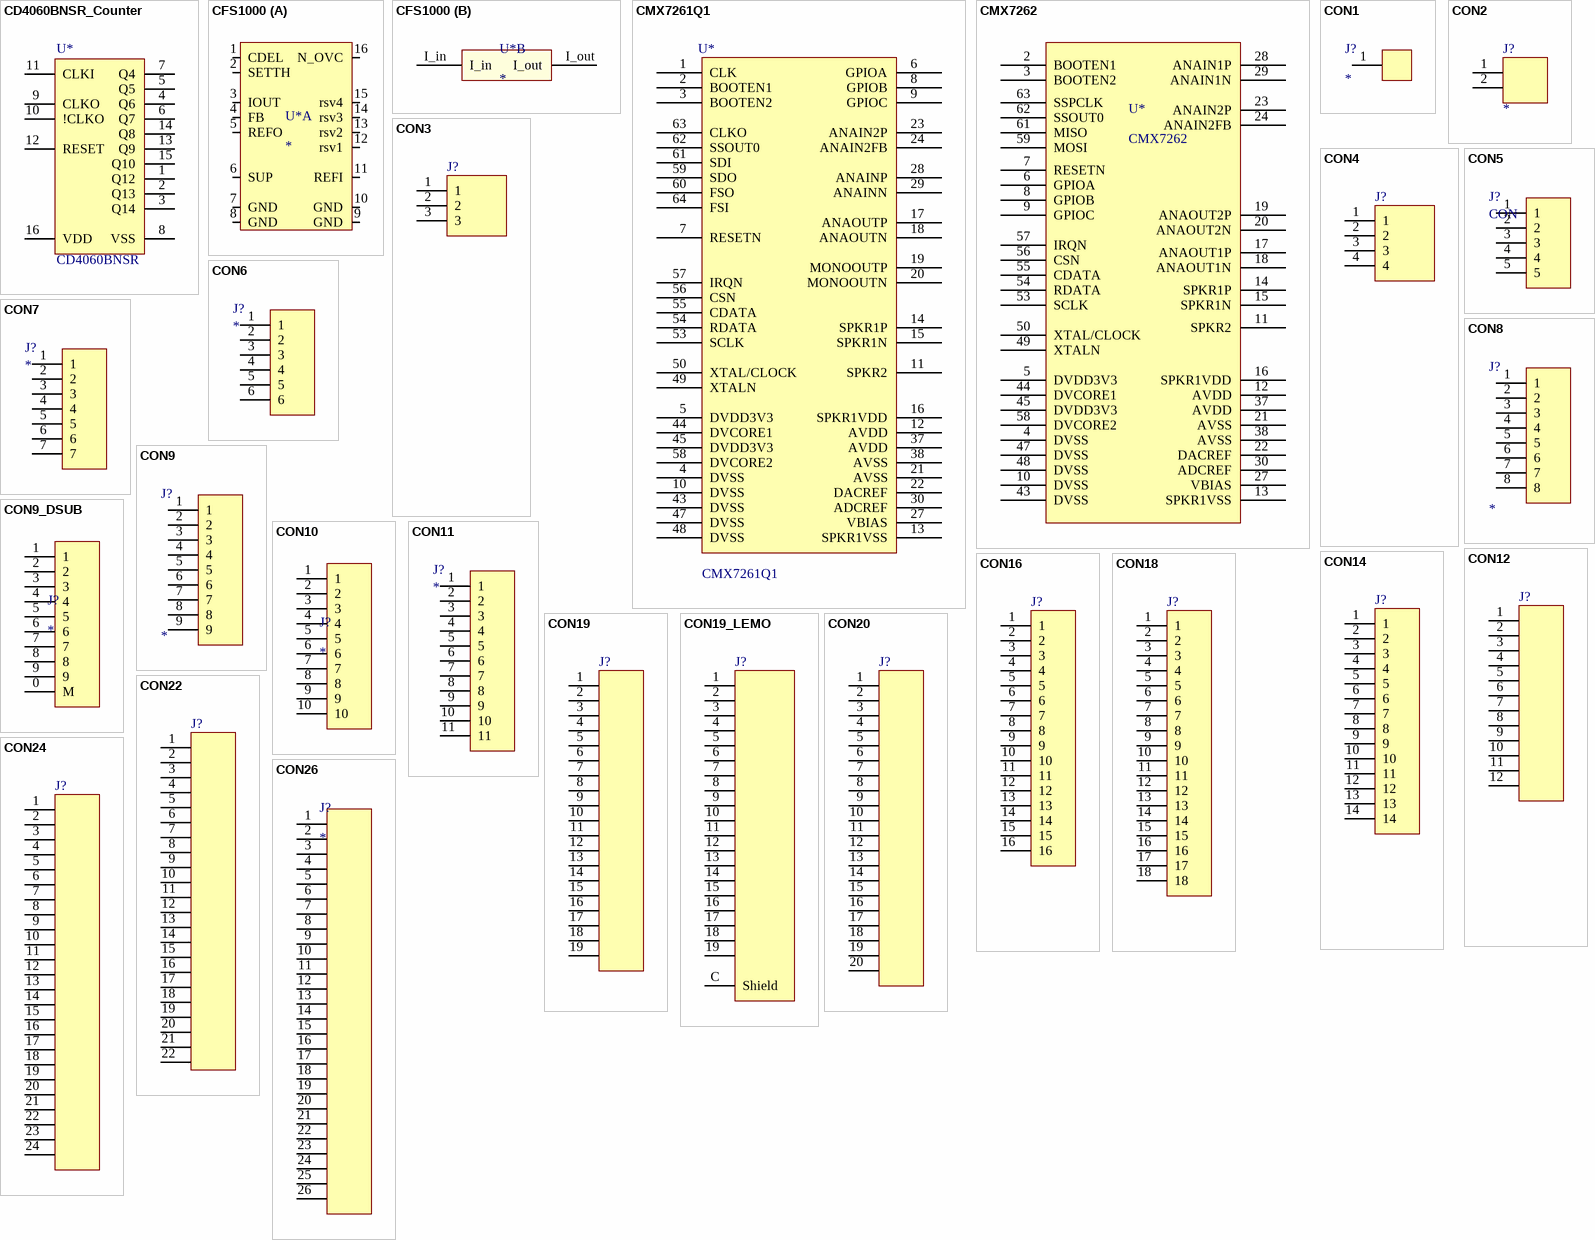
[diagram p3: symbols CD4060BNSR_Counter to CON26]

## CD4060BNSR_Counter
designator U*, comment CD4060BNSR
footprint SO16 (NX SO16 SOT109-1)
pins: 1 Q12, 2 Q13, 3 Q14, 4 Q6, 5 Q5, 6 Q7, 7 Q4, 8 VSS, 9 CLKO, 10 !CLKO, 11 CLKI, 12 RESET, 13 Q9, 14 Q8, 15 Q10, 16 VDD

## CFS1000
designator U*
Integrated MagnetoResistive Current Sensor; ComponentLink1Description: Datenblatt; ComponentLink1URL: https://www.sensitec.com/de/produkte-loesungen/strommessung/cfs1000
footprint SOIC16_DW
footprint CFS100_60A_1mm (CFS1000 60A U Bar 1mm Dicke)
part A pins: 1 CDEL, 2 SETTH, 3 IOUT, 4 FB, 5 REFO, 6 SUP, 7 GND, 8 GND, 9 GND, 10 GND, 11 REFI, 12 rsv1, 13 rsv2, 14 rsv3, 15 rsv4, 16 N_OVC
part B pins: I_in, I_out

## CMX7261Q1
designator U*
footprint LQFP-64 (QFP50P1200X1200X140-65N)
pins: 1 CLK, 2 BOOTEN1, 3 BOOTEN2, 4 DVSS, 5 DVDD3V3, 6 GPIOA, 7 RESETN, 8 GPIOB, 9 GPIOC, 10 DVSS, 11 SPKR2, 12 AVDD, 13 SPKR1VSS, 14 SPKR1P, 15 SPKR1N, 16 SPKR1VDD, 17 ANAOUTP, 18 ANAOUTN, 19 MONOOUTP, 20 MONOOUTN, 21 AVSS, 22 DACREF, 23 ANAIN2P, 24 ANAIN2FB, 27 VBIAS, 28 ANAINP, 29 ANAINN, 30 ADCREF, 37 AVDD, 38 AVSS, 43 DVSS, 44 DVCORE1, 45 DVDD3V3, 47 DVSS, 48 DVSS, 49 XTALN, 50 XTAL/CLOCK, 53 SCLK, 54 RDATA, 55 CDATA, 56 CSN, 57 IRQN, 58 DVCORE2, 59 SDO, 60 FSO, 61 SDI, 62 SSOUT0, 63 CLKO, 64 FSI

## CMX7262
designator U*
TWELP Vocoder
footprint LQFP-64 (QFP50P1200X1200X140-65N)
pins: 2 BOOTEN1, 3 BOOTEN2, 4 DVSS, 5 DVDD3V3, 6 GPIOA, 7 RESETN, 8 GPIOB, 9 GPIOC, 10 DVSS, 11 SPKR2, 12 AVDD, 13 SPKR1VSS, 14 SPKR1P, 15 SPKR1N, 16 SPKR1VDD, 17 ANAOUT1P, 18 ANAOUT1N, 19 ANAOUT2P, 20 ANAOUT2N, 21 AVSS, 22 DACREF, 23 ANAIN2P, 24 ANAIN2FB, 27 VBIAS, 28 ANAIN1P, 29 ANAIN1N, 30 ADCREF, 37 AVDD, 38 AVSS, 43 DVSS, 44 DVCORE1, 45 DVDD3V3, 47 DVSS, 48 DVSS, 49 XTALN, 50 XTAL/CLOCK, 53 SCLK, 54 RDATA, 55 CDATA, 56 CSN, 57 IRQN, 58 DVCORE2, 59 MOSI, 61 MISO, 62 SSOUT0, 63 SSPCLK

## CON1
designator J?
footprint CON1
footprint CON1_Q
footprint CON1_WE_7460307 (Würth Elektronik 7460307 Bush with threaded hole M4 two Rows Pin.Plate)
footprint CON1_WE_7461063 (Würth Elektronik 7461063 Power Element 90° with threaded hole M4 two Rows Pin-Plate)
pins: 1

## CON2
designator J?
footprint HEADER_2_RM_2.54 (Header 2 Pin 2.54mm)
footprint CON2_3.81 (TE 284513-2)
footprint CON2_5.08 (796638-2)
footprint TE_2042274-2 (TE ELCON MINI 2042274-2)
footprint Molex_43650-0215 (Molex 43650-0215 2 Pin RM 3mm)
footprint HEADER_2_SMD_RM_2.54_FEMALE (SOCKET CONNECTORS 2.54 mm  MATING PIN Ø 0.76 mm / SINGLE ROW / DOUBLE ROW / SURFACE MOUNT)
footprint CON_1x2_RM3_tht_
pins: 1, 2

## CON3
designator J?
footprint HEADER_3_RM_2.54 (Header 3 Pin 2.54mm)
footprint 3 Pin Stiftleiste 90° 600V (3 Pin 600V 90° 3mm Rastermass (TE Connectivity  1-770967-0))
footprint HEADER_3_SMD_RM_2.54_FEMALE (SOCKET CONNECTORS 2.54 mm  MATING PIN Ø 0.76 mm / SINGLE ROW / DOUBLE ROW / SURFACE MOUNT)
pins: 1, 2, 3

## CON4
designator J?
footprint HEADER_4_RM_2.54 (Header 4 Pin 2.54mm)
footprint 4 Pin Stiftleiste HV (4 Pin 600V 4.12mm Rastermass (TE Connectivity 1-770174-1))
footprint CON_1x4_RM3_tht_Molex_43650-0427 (Molex 43650-0427 4 Pin RM 3mm)
footprint CON_2x2_MW-02-03-G-D-245-065 (Samtec MW-02-03-G-D-245-065)
footprint CON_2x2_CLM-102-02-L-D-BE (Samtec CLM-102-02-L-D-BE)
pins: 1, 2, 3, 4

## CON5
designator J?, comment CON
footprint HEADER_5_SMD_RM_2.54_FEMALE (SOCKET CONNECTORS 2.54 mm  MATING PIN Ø 0.76 mm / SINGLE ROW / DOUBLE ROW / SURFACE MOUNT)
pins: 1, 2, 3, 4, 5

## CON6
designator J?
footprint 6 Pin Stiftleiste 90° (6 Pin 600V 90° 3mm Rastermass (Molex 43045-0600))
footprint 6 Pin Stiftleiste (6 Pin 600V 3mm Rastermass (Molex 43045-0612))
footprint 6 Pin Molex (6 Pin 100V 1.25mm Rastermass (Molex 55447-0670))
footprint CON_2x3_RM4.12_tht_90°_HV (6 Pin 600V 90° 4.12mm Rastermass (TE connectivity 770969-1))
footprint CON_2x3_RM4.12_tht_HV
footprint CON_2x3_CLM-103-02-L-D-BE (Samtec CLM-103-02-L-D-BE)
footprint CON_2x3_MW-03-03-G-D-245-065 (Samtec MW-03-03-G-D-245-065)
pins: 1, 2, 3, 4, 5, 6

## CON7
designator J?
footprint CON7_RM3.81
footprint JST_XH_7_B7B-XH-A (XH CONNECTOR 2.5mm pitch/Disconnectable Crimp style connectors)
pins: 1, 2, 3, 4, 5, 6, 7

## CON8
designator J?
footprint CON8_3.81 (TE 284513-8)
footprint HEADER_8_RM_2.54 (Header 8 Pin 2.54mm)
footprint 8 Pin Stiftleiste 90° (8 Pin 600V 90° 3mm Rastermass (Molex 43045-0800))
footprint CON_2x4_RM4.12_tht_HV
footprint CON_2x4_RM2_THT_Molex_ 55917-0810_MicroClasp (Molex_ 55917-0810 MicroClasp)
pins: 1, 2, 3, 4, 5, 6, 7, 8

## CON9
designator J?
footprint HEADER_9_versetzt (Header 9 Pin 110mil)
pins: 1, 2, 3, 4, 5, 6, 7, 8, 9

## CON9_DSUB
designator J?
9 Pin DSUB Connector
footprint DSUB_M
footprint DSUB_9_F (DSUB 9 straight female connector)
footprint DSUB_9_F_90° (DSUB 9 angled female connector)
pins: 0 M, 1, 2, 3, 4, 5, 6, 7, 8, 9

## CON10
designator J?
footprint 10 Pin Stiftleiste 90° (10 Pin 600V 90° 3mm Rastermass (Molex 43045-1000))
footprint CON_2x5_RM2_THT_Molex_ 55917-1010_MicroClasp (Molex_ 55917-1010 MicroClasp)
pins: 1, 2, 3, 4, 5, 6, 7, 8, 9, 10

## CON11
designator J?
pins: 1, 2, 3, 4, 5, 6, 7, 8, 9, 10, 11

## CON12
designator J?
footprint CON_2x6_RM2_THT_Molex_ 55917-1210_MicroClasp (Molex_ 55917-1210 MicroClasp)
pins: 1, 2, 3, 4, 5, 6, 7, 8, 9, 10, 11, 12

## CON14
designator J?
footprint 16 Pin Stiftleiste (16 Pin 600V 3mm Rastermass (Molex 0430451612))
footprint CON_2x8_RM2_THT_Molex_55917-1610_MicroClasp (Molex_55917-1610 MicroClasp)
pins: 1, 2, 3, 4, 5, 6, 7, 8, 9, 10, 11, 12, 13, 14

## CON16
designator J?
footprint 16 Pin Stiftleiste (16 Pin 600V 3mm Rastermass (Molex 0430451612))
footprint CON_2x8_RM2_THT_Molex_55917-1610_MicroClasp (Molex_55917-1610 MicroClasp)
pins: 1, 2, 3, 4, 5, 6, 7, 8, 9, 10, 11, 12, 13, 14, 15, 16

## CON18
designator J?
footprint 18 Pin Stiftleiste 90° (18 Pin 600V 90° 3mm Rastermass (Molex 43045-1800))
footprint 18 Pin Stiftleiste (18 Pin 600V 3mm Rastermass (Molex 43045-1612))
footprint CON_2x9_RM2_THT_Molex_55917-1810_MicroClasp (Molex_55917-1810 MicroClasp)
pins: 1, 2, 3, 4, 5, 6, 7, 8, 9, 10, 11, 12, 13, 14, 15, 16, 17, 18

## CON19
designator J?
pins: 1, 2, 3, 4, 5, 6, 7, 8, 9, 10, 11, 12, 13, 14, 15, 16, 17, 18, 19

## CON19_LEMO
designator J?
Lemo Stecker 19 Pin
footprint CON_19_HEN.2M.319.XLNP (LEMO HEN.2M.319.XLNP Stecker)
pins: 1, 2, 3, 4, 5, 6, 7, 8, 9, 10, 11, 12, 13, 14, 15, 16, 17, 18, 19, C Shield

## CON20
designator J?
footprint CON_2x10_RM2_THT_Molex_  55917-2010_MicroClasp (Molex_  55917-2010 MicroClasp)
pins: 1, 2, 3, 4, 5, 6, 7, 8, 9, 10, 11, 12, 13, 14, 15, 16, 17, 18, 19, 20

## CON22
designator J?
footprint CON_2x11_RM2_THT_Molex_55917-2210_MicroClasp (Molex_55917-2210 MicroClasp)
pins: 1, 2, 3, 4, 5, 6, 7, 8, 9, 10, 11, 12, 13, 14, 15, 16, 17, 18, 19, 20, 21, 22

## CON24
designator J?
footprint CON_2x12_RM2_THT_Molex_55917-2410_MicroClasp (Molex_55917-2410 MicroClasp)
pins: 1, 2, 3, 4, 5, 6, 7, 8, 9, 10, 11, 12, 13, 14, 15, 16, 17, 18, 19, 20, 21, 22, 23, 24

## CON26
designator J?
footprint CON_2x13_RM2_THT_Molex_55917-2610_MicroClasp (Molex_55917-2610 MicroClasp)
pins: 1, 2, 3, 4, 5, 6, 7, 8, 9, 10, 11, 12, 13, 14, 15, 16, 17, 18, 19, 20, 21, 22, 23, 24, 25, 26

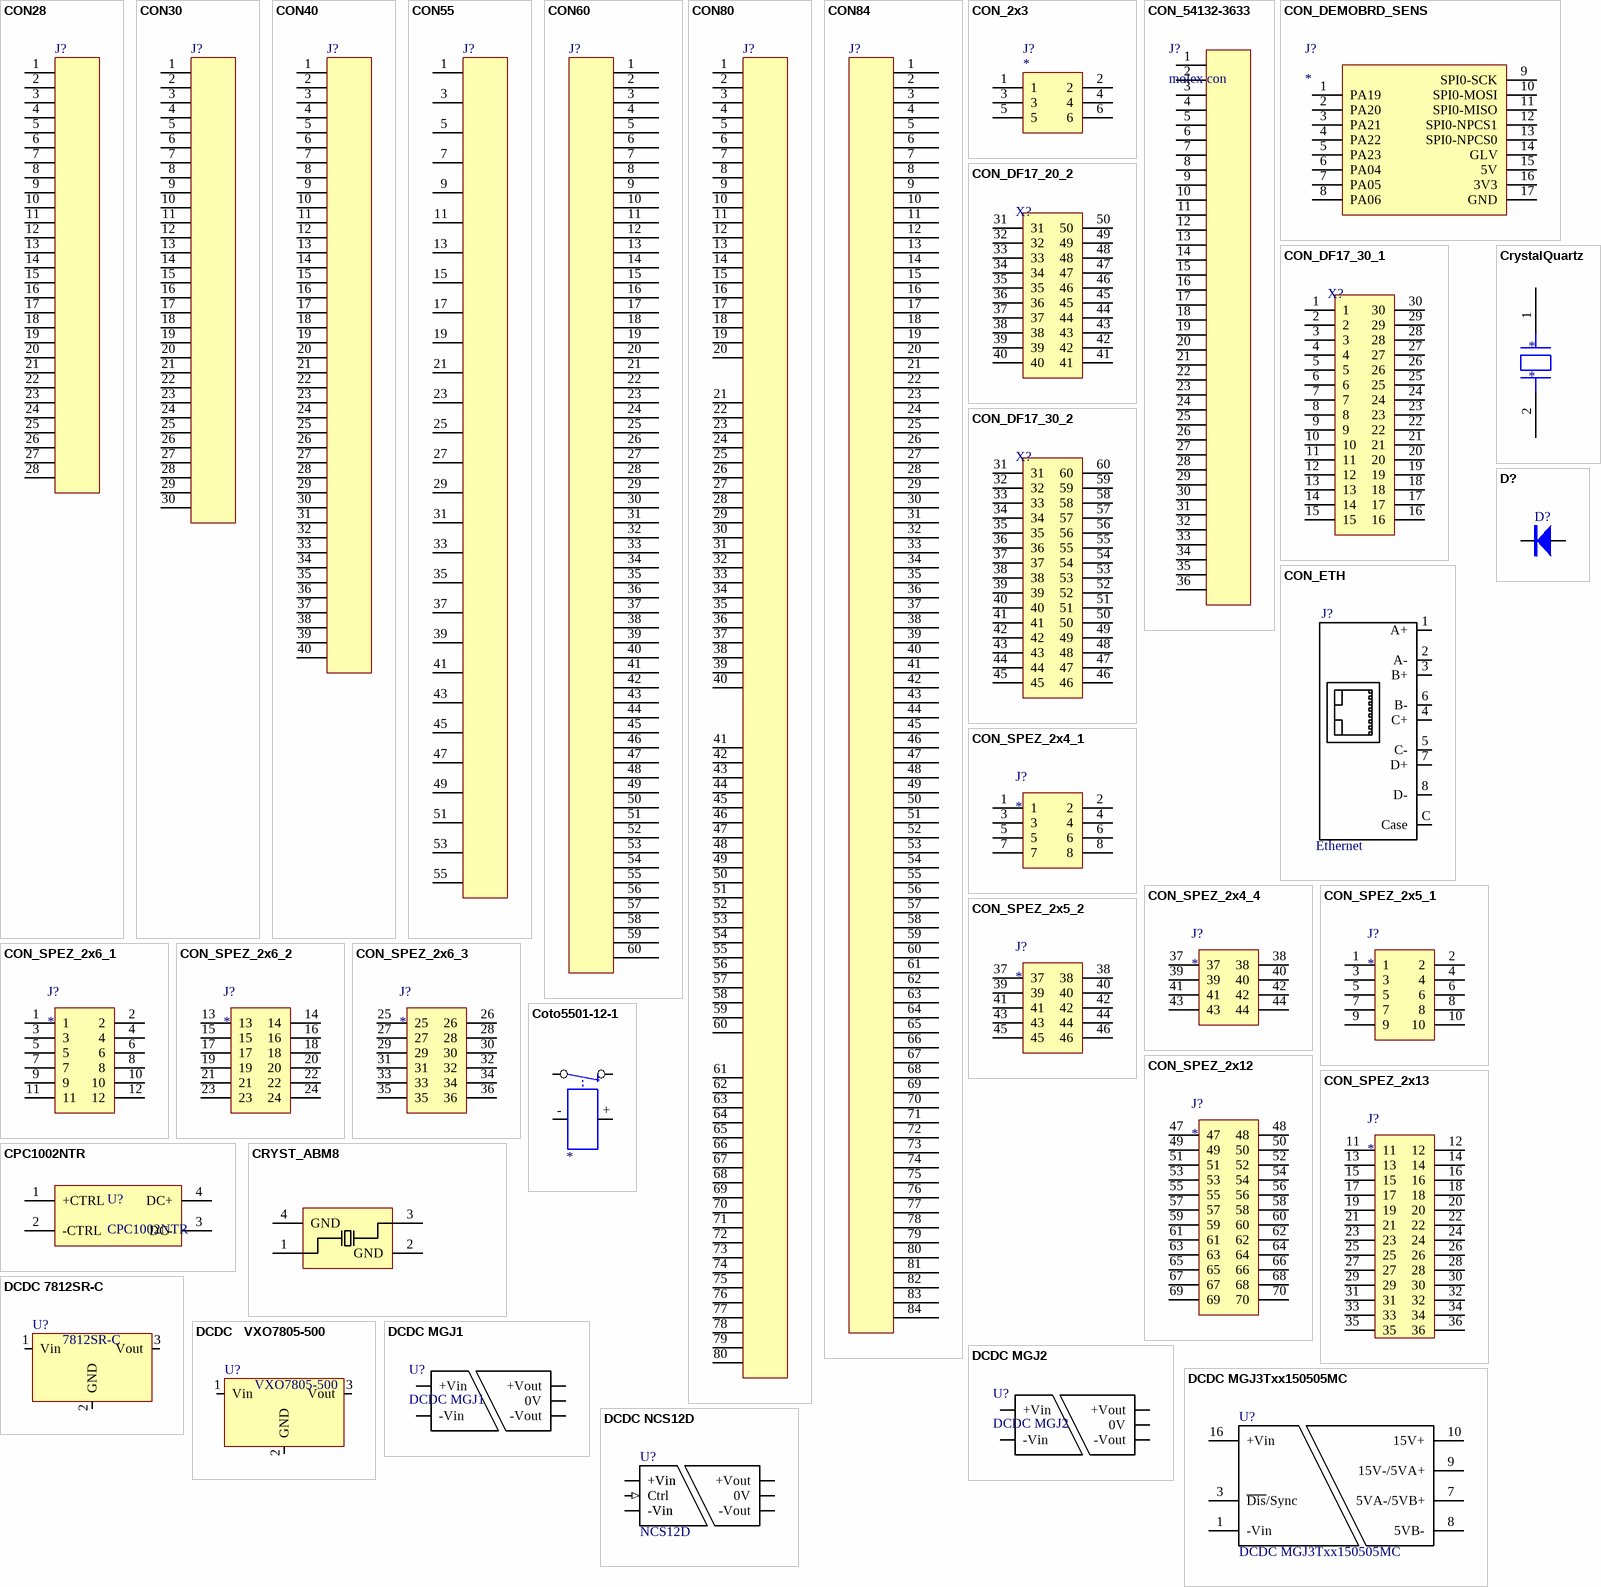
[diagram p4: symbols CON28 to DCDC NCS12D]

## CON28
designator J?
footprint CON_2x14_RM2_THT_Molex_55917-2810_MicroClasp (Molex_55917-2810 MicroClasp)
pins: 1, 2, 3, 4, 5, 6, 7, 8, 9, 10, 11, 12, 13, 14, 15, 16, 17, 18, 19, 20, 21, 22, 23, 24, 25, 26, 27, 28

## CON30
designator J?
pins: 1, 2, 3, 4, 5, 6, 7, 8, 9, 10, 11, 12, 13, 14, 15, 16, 17, 18, 19, 20, 21, 22, 23, 24, 25, 26, 27, 28, 29, 30

## CON40
designator J?
pins: 1, 2, 3, 4, 5, 6, 7, 8, 9, 10, 11, 12, 13, 14, 15, 16, 17, 18, 19, 20, 21, 22, 23, 24, 25, 26, 27, 28, 29, 30, 31, 32, 33, 34, 35, 36, 37, 38, 39, 40

## CON55
designator J?
pins: 1, 3, 5, 7, 9, 11, 13, 15, 17, 19, 21, 23, 25, 27, 29, 31, 33, 35, 37, 39, 41, 43, 45, 47, 49, 51, 53, 55

## CON60
designator J?
footprint HEADER_60_versetzt (Header 60 Pin 100mil)
footprint CON_60_IMSA-10112B (Iriso Z Move Rechtwinkliger Stecker)
footprint CON_60_IMSA-10112S-60Y900 (IRISO Z Move Stecker IMSA-10112S-60Y900v)
pins: 1, 2, 3, 4, 5, 6, 7, 8, 9, 10, 11, 12, 13, 14, 15, 16, 17, 18, 19, 20, 21, 22, 23, 24, 25, 26, 27, 28, 29, 30, 31, 32, 33, 34, 35, 36, 37, 38, 39, 40, 41, 42, 43, 44, 45, 46, 47, 48, 49, 50, 51, 52, 53, 54, 55, 56, 57, 58, 59, 60

## CON80
designator J?
footprint Samtec_2x_ERF8-020-05.0 (MCM Stecker für Ventilverbindung eiger)
pins: 1, 2, 3, 4, 5, 6, 7, 8, 9, 10, 11, 12, 13, 14, 15, 16, 17, 18, 19, 20, 21, 22, 23, 24, 25, 26, 27, 28, 29, 30, 31, 32, 33, 34, 35, 36, 37, 38, 39, 40, 41, 42, 43, 44, 45, 46, 47, 48, 49, 50, 51, 52, 53, 54, 55, 56, 57, 58, 59, 60, 61, 62, 63, 64, 65, 66, 67, 68, 69, 70, 71, 72, 73, 74, 75, 76, 77, 78, 79, 80

## CON84
designator J?
footprint HEADER_84_versetzt (Header 84 Pin 100mil)
pins: 1, 2, 3, 4, 5, 6, 7, 8, 9, 10, 11, 12, 13, 14, 15, 16, 17, 18, 19, 20, 21, 22, 23, 24, 25, 26, 27, 28, 29, 30, 31, 32, 33, 34, 35, 36, 37, 38, 39, 40, 41, 42, 43, 44, 45, 46, 47, 48, 49, 50, 51, 52, 53, 54, 55, 56, 57, 58, 59, 60, 61, 62, 63, 64, 65, 66, 67, 68, 69, 70, 71, 72, 73, 74, 75, 76, 77, 78, 79, 80, 81, 82, 83, 84

## CON_2x3
designator J?
pins: 1, 2, 3, 4, 5, 6

## CON_54132-3633
designator J?, comment molex con
molex 54132-3633 con
footprint CON_54132-3633 (FFC/FPC Connector)
pins: 1, 2, 3, 4, 5, 6, 7, 8, 9, 10, 11, 12, 13, 14, 15, 16, 17, 18, 19, 20, 21, 22, 23, 24, 25, 26, 27, 28, 29, 30, 31, 32, 33, 34, 35, 36

## CON_DEMOBRD_SENS
designator J?
footprint CON_DEMOBRD_SENS - duplicate (Header Pins for additional Sensors on Demoboard)
pins: 1 PA19, 2 PA20, 3 PA21, 4 PA22, 5 PA23, 6 PA04, 7 PA05, 8 PA06, 9 SPI0-SCK, 10 SPI0-MOSI, 11 SPI0-MISO, 12 SPI0-NPCS1, 13 SPI0-NPCS0, 14 GLV, 15 5V, 16 3V3, 17 GND

## CON_DF17_20_2
designator X?
pins: 31, 32, 33, 34, 35, 36, 37, 38, 39, 40, 41, 42, 43, 44, 45, 46, 47, 48, 49, 50

## CON_DF17_30_1
designator X?
pins: 1, 2, 3, 4, 5, 6, 7, 8, 9, 10, 11, 12, 13, 14, 15, 16, 17, 18, 19, 20, 21, 22, 23, 24, 25, 26, 27, 28, 29, 30

## CON_DF17_30_2
designator X?
pins: 31, 32, 33, 34, 35, 36, 37, 38, 39, 40, 41, 42, 43, 44, 45, 46, 47, 48, 49, 50, 51, 52, 53, 54, 55, 56, 57, 58, 59, 60

## CON_ETH
designator J?, comment Ethernet
Ethernet Connector
footprint ETH_WE_615008140421 (WE 615008140421 VERTICAL SHIELDED 8P8C REAR POST MODULAR JACK)
footprint ETH_WE_615008138221 (WE 615008138121 VERTICAL SHIELDED 8P8C FRONT POST MODULAR JACK)
footprint ETH_WE_615008138221/615008140421 (WE 615008138221/WE 615008140421 VERTICAL SHIELDED 8P8C FRONT/REAR POST MODULAR JACK)
footprint ETH_WE_61500814221
pins: 1 A+, 2 A-, 3 B+, 4 C+, 5 C-, 6 B-, 7 D+, 8 D-, C Case

## CON_SPEZ_2x4_1
designator J?
pins: 1, 2, 3, 4, 5, 6, 7, 8

## CON_SPEZ_2x4_4
designator J?
pins: 37, 38, 39, 40, 41, 42, 43, 44

## CON_SPEZ_2x5_1
designator J?
pins: 1, 2, 3, 4, 5, 6, 7, 8, 9, 10

## CON_SPEZ_2x5_2
designator J?
pins: 37, 38, 39, 40, 41, 42, 43, 44, 45, 46

## CON_SPEZ_2x6_1
designator J?
pins: 1, 2, 3, 4, 5, 6, 7, 8, 9, 10, 11, 12

## CON_SPEZ_2x6_2
designator J?
pins: 13, 14, 15, 16, 17, 18, 19, 20, 21, 22, 23, 24

## CON_SPEZ_2x6_3
designator J?
pins: 25, 26, 27, 28, 29, 30, 31, 32, 33, 34, 35, 36

## CON_SPEZ_2x12
designator J?
pins: 47, 48, 49, 50, 51, 52, 53, 54, 55, 56, 57, 58, 59, 60, 61, 62, 63, 64, 65, 66, 67, 68, 69, 70

## CON_SPEZ_2x13
designator J?
pins: 11, 12, 13, 14, 15, 16, 17, 18, 19, 20, 21, 22, 23, 24, 25, 26, 27, 28, 29, 30, 31, 32, 33, 34, 35, 36

## Coto5501-12-1
designator ?
footprint Coto5501-12-1
pins: 1, 2, +, -

## CPC1002NTR
designator U?
footprint 4-SOP
pins: 1 +CTRL, 2 -CTRL, 3 DC-, 4 DC+

## CRYST_ABM8
designator P?
ULTRA MINIATURE CERAM / IC SMD CRYSTAL; ComponentLink1Description: Datasheet; ComponentLink1URL: https://abracon.com/Resonators/abm8.pdf
footprint CRYST_ABM8
pins: 1, 2 GND, 3, 4 GND

## CrystalQuartz
designator *
footprint LFXTAL055663Reel (LFXTAL055663Reel Crystal Quarz)
pins: 1, 2

## D?
designator D?  (value not drawn)
Diode
footprint D0805
footprint D0603
footprint SOD-128
footprint SOD-323HE
pins: A 1, K 2

## DCDC 7812SR-C
designator U?, comment 7812SR-C
DC/DC Converter 8.0-32Vin / 5Vout
footprint 78SR 2
pins: 1 Vin, 2 GND, 3 Vout

## DCDC   VXO7805-500
designator U?, comment VXO7805-500
DC/DC Converter 8.0-32Vin / 5Vout
footprint 78SR 2
footprint DC/DC_3pol
pins: 1 Vin, 2 GND, 3 Vout

## DCDC MGJ1
designator U?
footprint MGJ1
pins: 1 -Vin, 3 -Vout, 5 +Vout, 6 0V, 8 +Vin

## DCDC MGJ2
designator U?
footprint MGJ2
pins: 1 +Vin, 2 -Vin, 5 -Vout, 6 0V, 7 +Vout

## DCDC MGJ3Txx150505MC
designator U?
5.2kVDC Isolated 3W Gate Drive SM DC/DC Converters
footprint MURATA_MGJ3 (5.2kVDC Isolated 3W Gate Drive SM DC/DC Converters)
pins: 1 -Vin, 3 ~{Dis}/Sync, 7 5VA-/5VB+, 8 5VB-, 9 15V-/5VA+, 10 15V+, 16 +Vin

## DCDC NCS12D
designator U?, comment NCS12D
Isolated 12W 4:1 Input Single & Dual Output DC/DC Converter
footprint NCS12 (Isolated 12W 4:1 Input Single & Dual Output DC/DC Converter)
pins: 1 Ctrl (in), 2 -Vin (power), 3 -Vin (power), 11 -Vout (power), 14 +Vout (power), 16 0V (power), 22 +Vin (power), 23 +Vin (power)

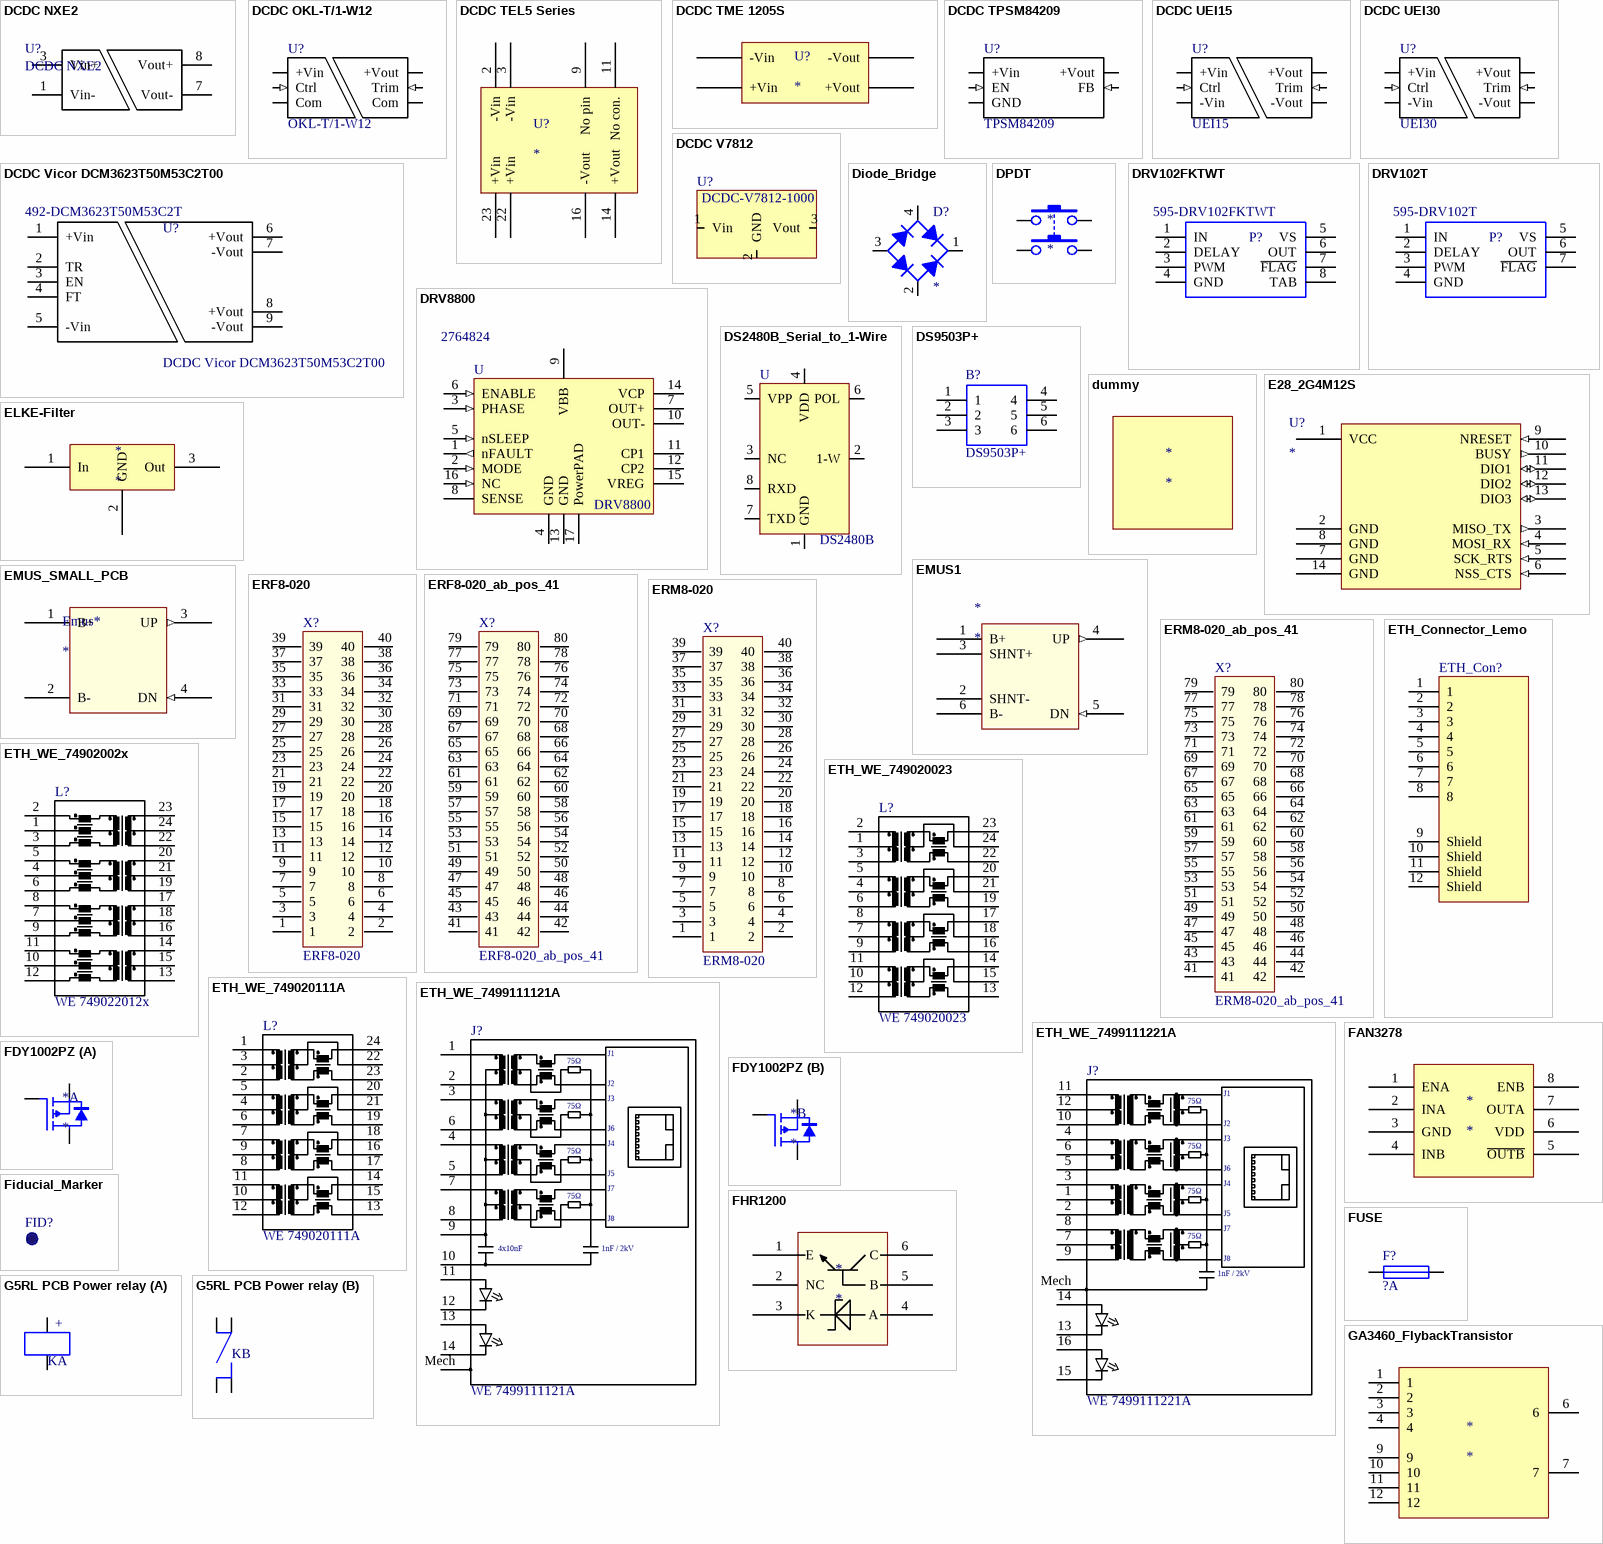
[diagram p5: symbols DCDC NXE2 to GA3460_FlybackTransistor]

## DCDC NXE2
designator U?
DC/DC Converter 3 Watt SIP8 Isolated Single & Dual Output RECOM
footprint NXE2
pins: 1 Vin-, 3 Vin+, 7 Vout-, 8 Vout+

## DCDC OKL-T/1-W12
designator U?, comment OKL-T/1-W12
Programmable Output 1-Amp iLGA SMT PoLs 5.15W; ComponentLink1Description: Datasheet; ComponentLink1URL: https://power.murata.com/data/power/okl-t1-w12.pdf
pins: 1 +Vin (power), 2 Com (power), 3 Ctrl (in), 4 +Vout (power), 5 Com (power), 6 Trim (in)

## DCDC TEL5 Series
designator U?
footprint DCDC TEL5-1212
pins: 2 -Vin, 3 -Vin, 9 No pin, 11 No con., 14 +Vout, 16 -Vout, 22 +Vin, 23 +Vin

## DCDC TME 1205S
designator U?
footprint DCDC TME series
pins: 1 -Vin, 2 +Vin, 3 -Vout, 4 +Vout

## DCDC TPSM84209
designator U?, comment TPSM84209
TPSM84209 4.5-V to 28-V Input, 1.2-V to 6-V Output, / 2.5-A Power Module; ComponentLink1Description: Datasheet; ComponentLink1URL: https://power.murata.com/data/power/okl-t1-w12.pdf
pins: 1 +Vin (power), 3 EN (in), 4 +Vout (power), 5 GND (power), 6 FB (in)

## DCDC UEI15
designator U?, comment UEI15
15.6W Isolated Wide-Range DC-DC Converter
footprint UEI15 (Murata 15.6W Isolated Wide-Range DC-DC Converter)
pins: 1 +Vin (power), 2 -Vin (power), 3 +Vout (power), 4 Trim (in), 5 -Vout (power), 6 Ctrl (in)

## DCDC UEI30
designator U?, comment UEI30
30W Isolated Wide-Range DC-DC Converter
footprint UEI30 (Murata 30W Isolated Wide-Range DC-DC Converter)
pins: 1 +Vin (power), 2 -Vin (power), 3 Ctrl (in), 4 +Vout (power), 5 -Vout (power), 6 Trim (in)

## DCDC V7812
designator U?, comment DCDC-V7812-1000
DC/DC Converter 16-32Vin / 12Vout 1A
footprint V78-1000 (FP DCDC V7812-1000)
pins: 1 Vin, 2 GND, 3 Vout

## DCDC Vicor DCM3623T50M53C2T00
designator U?  Supplier Part Number 1: 492-DCM3623T50M53C2T
DC/DC Converters 320W; Vicor DCM3623T50M53C2T00; Supplier 1: Mouser
footprint DCDC 3623 ChiP (Fotprint Vicor DCM3623T50M53C2T00)
pins: 1 +Vin, 2 TR, 3 EN, 4 FT, 5 -Vin, 6 +Vout, 7 -Vout, 8 +Vout, 9 -Vout

## Diode_Bridge
designator D?
Full Wave Diode Bridge; value: *
pins: 1 V+, 2 AC, 3 V-, 4 AC

## DPDT
designator *
footprint DPDT; pin to pad S11>2 S12>1 S21>5 S22>4
pins: S11, S12, S21, S22

## DRV102FKTWT
designator P?  Supplier Part Number 1: 595-DRV102FKTWT
Supplier 1: Mouser
footprint TO-263-7
pins: 1 IN, 2 DELAY, 3 PWM (power), 4 GND (power), 5 VS (power), 6 OUT, 7 ~{FLAG}, 8 TAB

## DRV102T
designator P?  Supplier Part Number 1: 595-DRV102T
Supplier 1: Mouser
footprint TO-220-7
pins: 1 IN, 2 DELAY, 3 PWM, 4 GND, 5 VS, 6 OUT, 7 ~{FLAG}

## DRV8800
designator U  Supplier Part Number 1: 2764824
Supplier 1: Farnell
footprint HTSSOP16
pins: 1 nFAULT (out), 2 MODE (in), 3 PHASE (in), 4 GND (power), 5 nSLEEP (in), 6 ENABLE (in), 7 OUT+ (oc), 8 SENSE, 9 VBB (power), 10 OUT- (oc), 11 CP1, 12 CP2, 13 GND (power), 14 VCP, 15 VREG, 16 NC (in), 17 PowerPAD

## DS2480B_Serial_to_1-Wire
designator U, comment DS2480B
footprint SO8
pins: 1 GND, 2 1-W, 3 NC, 4 VDD, 5 VPP, 6 POL, 7 TXD, 8 RXD

## DS9503P+
designator B?
I.C. DS9503P Maxim DS9503P+ ESD Protection Diode, 6-Pin TSOC; Manufacturer_Name: Maxim Integrated; Supplier_Name: RS; RS Part Number: 5402906; Manufacturer_Part_Number: DS9503P+; Allied_Number: *; Other Part Number: *; Datasheet Link: http://datasheets.maximintegrated.com/en/ds/DS9503.pdf; 3D Package: *
footprint 6-LEAD-TSOC
pins: 1, 2, 3, 4, 5, 6

## dummy
designator *

## E28_2G4M12S
designator U?
eByte SX1280 2.4GHz Module for LORA and other RF
footprint E28-2G4M12S
pins: 1 VCC (power), 2 GND (power), 3 MISO_TX (out), 4 MOSI_RX (in), 5 SCK_RTS (in), 6 NSS_CTS (in), 7 GND (power), 8 GND (power), 9 NRESET (in), 10 BUSY (out), 11 DIO1 (io), 12 DIO2 (io), 13 DIO3 (io), 14 GND (power)

## ELKE-Filter
designator *
footprint ELKE_Filter
pins: 1 In, 2 GND, 3 Out

## EMUS1
designator *
pins: 1 B+, 2 SHNT-, 3 SHNT+, 4 UP (out), 5 DN (in), 6 B-

## EMUS_SMALL_PCB
designator Emus*
pins: 1 B+, 2 B-, 3 UP (out), 4 DN (in)

## ERF8-020
designator X?
0.8mm Socket Assembly, Double Vertical Row, 20 Positions Per Row.; MANUFACTURER: SAMTEC; PCB DECAL: ERF8-020-XX.X-X-DV; CREATED: July 2, 2014 - Wendy Xin
footprint ERF8-020
pins: 1, 2, 3, 4, 5, 6, 7, 8, 9, 10, 11, 12, 13, 14, 15, 16, 17, 18, 19, 20, 21, 22, 23, 24, 25, 26, 27, 28, 29, 30, 31, 32, 33, 34, 35, 36, 37, 38, 39, 40

## ERF8-020_ab_pos_41
designator X?
0.8mm Socket Assembly, Double Vertical Row, 20 Positions Per Row.; MANUFACTURER: SAMTEC; PCB DECAL: ERF8-020-XX.X-X-DV; CREATED: July 2, 2014 - Wendy Xin
footprint ERF8-020
pins: 41, 42, 43, 44, 45, 46, 47, 48, 49, 50, 51, 52, 53, 54, 55, 56, 57, 58, 59, 60, 61, 62, 63, 64, 65, 66, 67, 68, 69, 70, 71, 72, 73, 74, 75, 76, 77, 78, 79, 80

## ERM8-020
designator X?
0.8mm Edge Rate Terminal Assembly, Double Vertical Row, 40 Pins.; MANUFACTURER: SAMTEC; PCB DECAL: ERM8-020-XX.X-X-DV-L; CREATED: August 17, 2016 - Wendy Xin
footprint ERM8-020
pins: 1, 2, 3, 4, 5, 6, 7, 8, 9, 10, 11, 12, 13, 14, 15, 16, 17, 18, 19, 20, 21, 22, 23, 24, 25, 26, 27, 28, 29, 30, 31, 32, 33, 34, 35, 36, 37, 38, 39, 40

## ERM8-020_ab_pos_41
designator X?
0.8mm Edge Rate Terminal Assembly, Double Vertical Row, 40 Pins.; MANUFACTURER: SAMTEC; PCB DECAL: ERM8-020-XX.X-X-DV-L; CREATED: August 17, 2016 - Wendy Xin
footprint ERM8-020
pins: 41, 42, 43, 44, 45, 46, 47, 48, 49, 50, 51, 52, 53, 54, 55, 56, 57, 58, 59, 60, 61, 62, 63, 64, 65, 66, 67, 68, 69, 70, 71, 72, 73, 74, 75, 76, 77, 78, 79, 80

## ETH_Connector_Lemo
designator ETH_Con?
footprint CON_12_HEN.2M.514.XLNP (LEMO Stecker Ethernet HEN.2M.514.XLNP)
pins: 1, 2, 3, 4, 5, 6, 7, 8, 9 Shield, 10 Shield, 11 Shield, 12 Shield

## ETH_WE_74902002x
designator L?, comment WE 749022012x
LAN-Transformer WE-LAN
footprint ETH_WE_7490220120 (LAN-Transformer WE-LAN)
footprint ETH_WE_7490220121 (LAN-Transformer WE-LAN)
footprint ETH_WE_7490220122 (LAN-Transformer WE-LAN)
footprint ETH_WE_7490220123 (LAN-Transformer WE-LAN)
pins: 1, 2, 3, 4, 5, 6, 7, 8, 9, 10, 11, 12, 13, 14, 15, 16, 17, 18, 19, 20, 21, 22, 23, 24

## ETH_WE_749020023
designator L?, comment WE 749020023
LAN-Transformer WE-LAN
footprint ETH_WE_749020023 (LAN-Transformer WE-LAN)
pins: 1, 2, 3, 4, 5, 6, 7, 8, 9, 10, 11, 12, 13, 14, 15, 16, 17, 18, 19, 20, 21, 22, 23, 24

## ETH_WE_749020111A
designator L?, comment WE 749020111A
LAN-Transformer WE-LAN
footprint ETH_WE_749020111A (LAN-Transformer WE-LAN)
pins: 1, 2, 3, 4, 5, 6, 7, 8, 9, 10, 11, 12, 13, 14, 15, 16, 17, 18, 19, 20, 21, 22, 23, 24

## ETH_WE_7499111121A
designator J?, comment WE 7499111121A
LAN-Transformer WE-RJ45LAN 10/100/1000 BaseT
footprint ETH_WE_7499111121A (LAN-Transformer WE-RJ45LAN 10/100/1000 BaseT)
pins: 1, 2, 3, 4, 5, 6, 7, 8, 9, 10, 11, 12, 13, 14, Mech
text: J1; 75Ω; J2; J3; J6; J4; J5; J7; J8; 4x10nF; 1nF / 2kV

## ETH_WE_7499111221A
designator J?, comment WE 7499111221A
LAN-Transformer WE-RJ45LAN 10/100/1000 BaseT
footprint ETH_WE_7499111221A (LAN-Transformer WE-RJ45LAN 10/100/1000 BaseT)
pins: 1, 2, 3, 4, 5, 6, 7, 8, 9, 10, 11, 12, 13, 14, 15, 16, Mech
text: J1; 75Ω; J2; J3; J6; J4; J5; J7; J8; 1nF / 2kV

## FAN3278
designator *
footprint SOIC8
pins: 1 ENA, 2 INA, 3 GND, 4 INB, 5 ~{OUTB}, 6 VDD, 7 OUTA, 8 ENB

## FDY1002PZ
designator *
footprint SC89-6
part A pins: 1 SOURCE, 2 GATE, 6 DRAIN
part B pins: 3 DRAIN, 4 SOURCE, 5 GATE

## FHR1200
designator *
footprint SC-70-6
pins: 1 E, 2 NC, 3 K, 4 A, 5 B, 6 C

## Fiducial_Marker
designator FID?, comment Fiducial  (value not drawn)
Fiducial Marker for automated production
footprint Fiducial_Marker (Fiducial 1mm 2mm)

## FUSE
designator F?, comment ?A
Fuse
footprint Littelfuse
footprint Littelfuse 157serie
footprint Littlefuse_600V
footprint Littlefuse_600V short (Padsize 5x5.6mm)
footprint Littelfuse_BF1 (Littelfuse Fuse BF1 32V, 2kA)
footprint LITTELFUSE_BF1_screw (Littelfuse Fuse BF1 32V, 2kA)
pins: 1, 2

## G5RL PCB Power relay
designator K, comment G5RL-1A-E-LN  (value not drawn)
DC5-24V;  16A/250V
footprint Relay G5RL (G5RL-1A-E-LN)
part A pins: 1, 8
part B pins: 3, 4, 5, 6
part A text: +

## GA3460_FlybackTransistor
designator *
footprint GA3460_FlybackTransformator (Coilcraft Flybacktransformator GA3469)
pins: 1 (power), 2 (power), 3 (power), 4 (power), 6 (power), 7 (power), 9 (power), 10 (power), 11 (power), 12 (power)

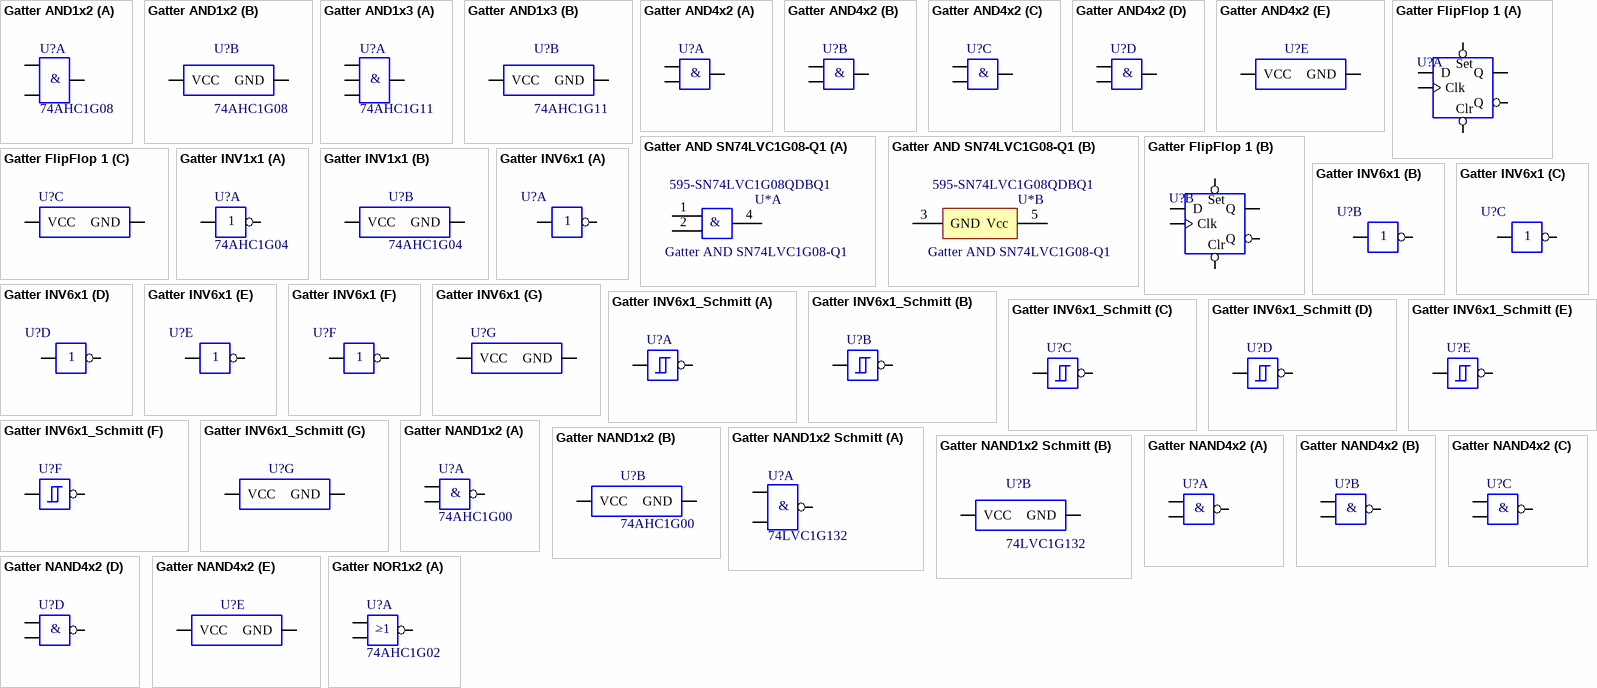
[diagram p6: symbols Gatter AND1x2 to Gatter NOR1x2]

## Gatter AND1x2
designator U?, comment 74AHC1G08
NXP - 74AHC1G08GW/T1 - 74AHC SINGLE GATE, SMD, 74AHC1G08; Value: 74AHC1G08; Package: SOT-353; Distributor: Farnell; Distributor Nr.: 1085240
footprint SOT-353 (SOT-353, (TSSOP5))
part A pins: 1 B, 2 A, 4 Y
part B pins: 3 GND, 5 VCC
part A text: &

## Gatter AND1x3
designator U?, comment 74AHC1G11
NXP - 74AHC1G08GW/T1 - 74AHC SINGLE GATE, SMD, 74AHC1G11; Value: 74AHC1G11; Package: SOT-353; Distributor: Farnell; Distributor Nr.: 1085240
footprint SC-70-6_2 (pads 0.9x0.4)
footprint SC-70-6
part A pins: 1 A, 3 B, 4 Y, 6 C
part B pins: 2 GND, 5 VCC
part A text: &

## Gatter AND4x2
designator U?
7408
footprint SO14
part A pins: 1 A0, 2 B0, 3 Y0
part B pins: 4 A1, 5 B1, 6 Y1
part C pins: 8 Y2, 9 B2, 10 A2
part D pins: 11 Y3, 12 B3, 13 A3
part E pins: 7 GND, 14 VCC
part A text: &
part B text: &
part C text: &
part D text: &

## Gatter AND SN74LVC1G08-Q1
designator U*  Supplier Part Number 1: 595-SN74LVC1G08QDBQ1
SINGLE 2-INPUT POSITIVE-AND GATE, Inputs Accept Voltages to 5.5 V; ComponentLink1URL: http://www.ti.com/lit/ds/symlink/sn74lvc1g08-q1.pdf; Supplier 1: Mouser
footprint SOT23-5
part A pins: 1 A, 2 B, 4 Y
part B pins: 3 GND, 5 Vcc
part A text: &

## Gatter FlipFlop 1
designator U?
7474
footprint SO14 (SO14 - metrisch zentriert)
part A pins: 1 C, 2 D, 3 Clk, 4 S, 5 Q, 6 Q
part B pins: 8 Q, 9 Q, 10 S, 11 Clk, 12 D, 13 C
part C pins: 7 GND, 14 VCC
part A text: Set; Clr
part B text: Set; Clr

## Gatter INV1x1
designator U?, comment 74AHC1G04
NXP - 74AHC1G04GW/T1 - 74AHC SINGLE GATE, SMD, 74AHC1G04; Value: 74AHC1G04; Package: SOT-353; Distributor: Farnell; Distributor Nr.: 1085239
footprint SOT-353 (SOT-353, (TSSOP5))
part A pins: 2 A, 4 Y
part B pins: 3 GND, 5 VCC
part A text: 1

## Gatter INV6x1
designator U?
7404
footprint SO14 (SO14 - metrisch zentriert)
part A pins: 1 A0, 2 Y0
part B pins: 3 A1, 4 Y1
part C pins: 5 A2, 6 Y2
part D pins: 12 Y3, 13 A3
part E pins: 10 Y4, 11 A4
part F pins: 8 Y5, 9 A5
part G pins: 7 GND, 14 VCC

## Gatter INV6x1_Schmitt
designator U?
7414
footprint SO14 (SO14 - metrisch zentriert)
part A pins: 1 A0, 2 Y0
part B pins: 3 A1, 4 Y1
part C pins: 5 A2, 6 Y2
part D pins: 12 Y3, 13 A3
part E pins: 10 Y4, 11 A4
part F pins: 8 Y5, 9 A5
part G pins: 7 GND, 14 VCC

## Gatter NAND1x2
designator U?, comment 74AHC1G00
NXP - 74AHC1G00GW/T1 - 74AHC SINGLE GATE, SMD, 74AHC1G00; Value: 74AHC1G00; Package: SOT-353; Distributor: Farnell; Distributor Nr.: 1201257
footprint SOT-353 (SOT-353, (TSSOP5))
part A pins: 1 B, 2 A, 4 Y
part B pins: 3 GND, 5 VCC
part A text: &

## Gatter NAND1x2 Schmitt
designator U?, comment 74LVC1G132
Two-Input Schmitt-Trigger NAND; Value: 74LVC1G132
part A pins: 1 B, 2 A, 4 Y
part B pins: 3 GND, 5 VCC
part A text: &

## Gatter NAND4x2
designator U?
7400
footprint SO14 (SO14 - metrisch zentriert)
part A pins: 1 A0, 2 B0, 3 Y0
part B pins: 4 A1, 5 B1, 6 Y1
part C pins: 8 Y2, 9 B2, 10 A2
part D pins: 11 Y3, 12 B3, 13 A3
part E pins: 7 GND, 14 VCC
part A text: &
part B text: &
part C text: &
part D text: &

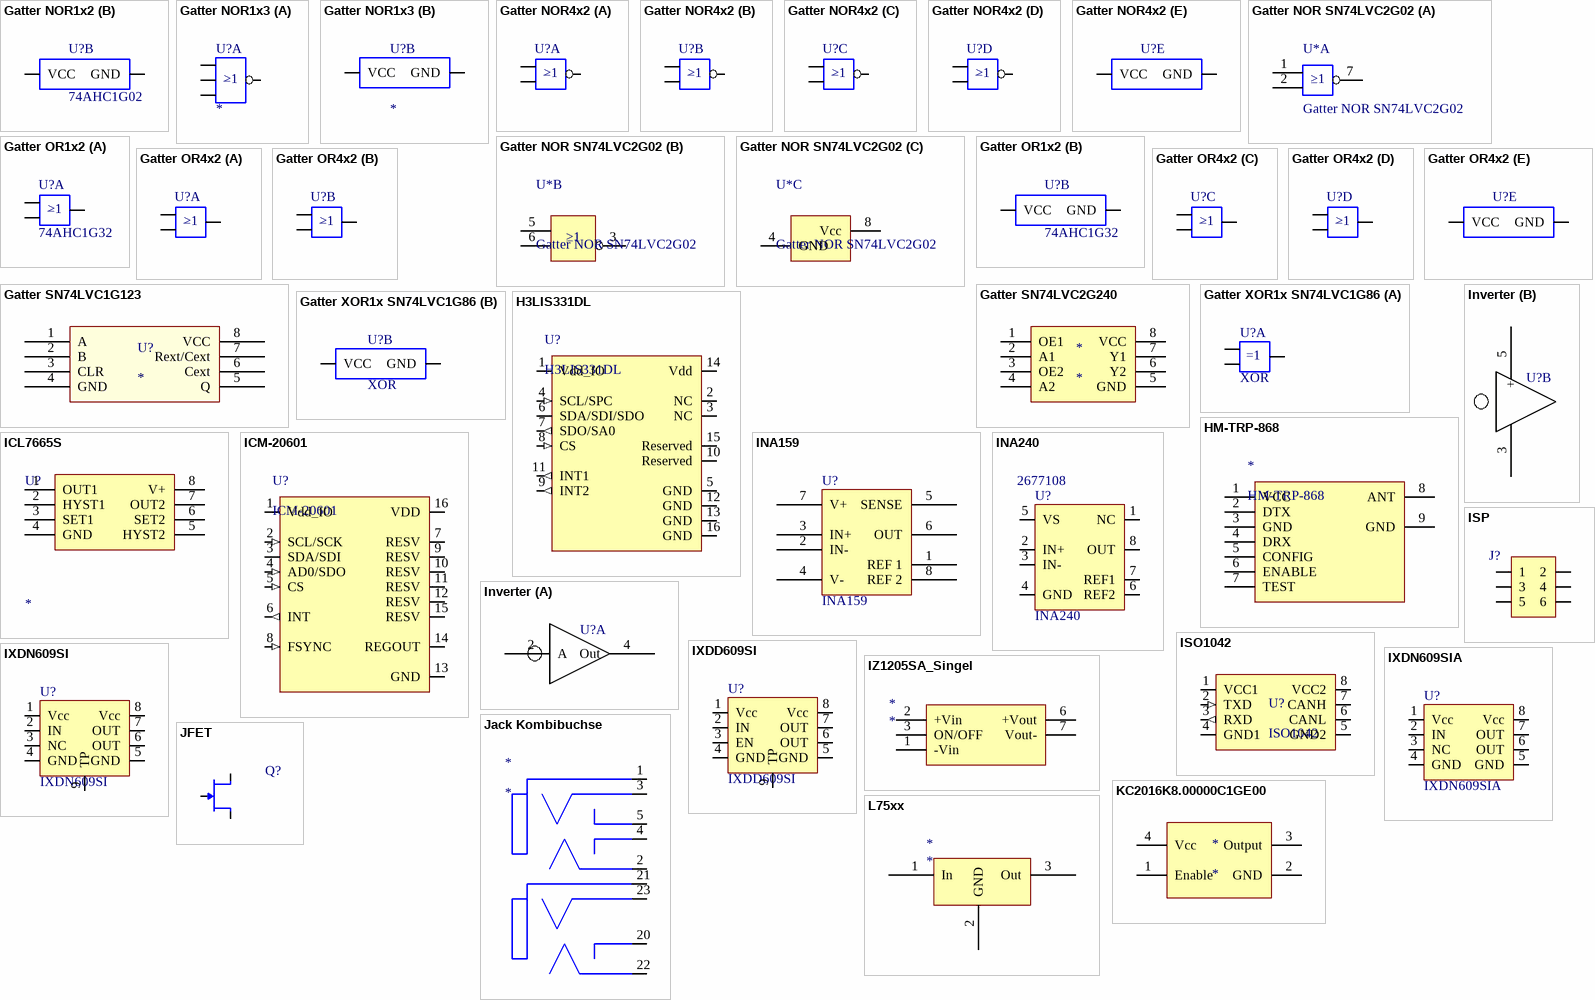
[diagram p7: symbols Gatter NOR1x2 to L75xx]

## Gatter NOR1x2
designator U?, comment 74AHC1G02
NXP - 74AHC1G02GW - 74AHC SINGLE GATE, SMD, 74AHC1G02; Value: 74AHC1G02; Package: SOT-353; Distributor: Farnell; Distributor Nr.: 1727697
footprint SOT-353 (SOT-353, (TSSOP5))
part A pins: 1 B, 2 A, 4 Y
part B pins: 3 GND, 5 VCC
part A text: >1; _

## Gatter NOR1x3
designator U?
footprint SOT23-6
part A pins: 1 A, 3 B, 4 Y, 6 C
part B pins: 2 GND, 5 VCC
part A text: >1; _

## Gatter NOR4x2
designator U?
7402
footprint SO14 (SO14 - metrisch zentriert)
part A pins: 1 A0, 2 B0, 3 Y0
part B pins: 4 A1, 5 B1, 6 Y1
part C pins: 8 Y2, 9 B2, 10 A2
part D pins: 11 Y3, 12 B3, 13 A3
part E pins: 7 GND, 14 VCC
part A text: >1; _
part B text: >1; _
part C text: >1; _
part D text: >1; _

## Gatter NOR SN74LVC2G02
designator U*
DUAL 2-Input Positive-NOR Gate, Inputs Accept Voltages to 5.5 V; Supplier 1: Mouser; Supplier Part Number 1: 595-SN74LVC2G02DCUR
footprint VSSOP8_DCU/DDU
part A pins: 1 1A (power), 2 1B (power), 7 1Y (power)
part B pins: 3 2Y (power), 5 2A (power), 6 2B (power)
part C pins: 4 GND (power), 8 Vcc (power)
part A text: ≥1
part B text: ≥1

## Gatter OR1x2
designator U?, comment 74AHC1G32
NXP - 74AHC1G32GW/T1 - 74AHC SINGLE GATE, SMD, 74AHC1G32; Value: 74AHC1G32; Package: SOT-353; Distributor: Farnell; Distributor Nr.: 1085242
footprint SOT-353 (SOT-353, (TSSOP5))
footprint SC-70-6
part A pins: 1 B, 2 A, 4 Y
part B pins: 3 GND, 5 VCC
part A text: >1; _

## Gatter OR4x2
designator U?
7432
footprint SO14 (SO14 - metrisch zentriert)
part A pins: 1 A0, 2 B0, 3 Y0
part B pins: 4 A1, 5 B1, 6 Y1
part C pins: 8 Y2, 9 B2, 10 A2
part D pins: 11 Y3, 12 B3, 13 A3
part E pins: 7 GND, 14 VCC
part A text: >1; _
part B text: >1; _
part C text: >1; _
part D text: >1; _

## Gatter SN74LVC1G123
designator U?
footprint SSOP8
pins: 1 A, 2 B, 3 CLR, 4 GND, 5 Q, 6 Cext, 7 Rext/Cext, 8 VCC

## Gatter SN74LVC2G240
designator *
footprint SSOP8
pins: 1 OE1, 2 A1, 3 OE2, 4 A2, 5 GND, 6 Y2, 7 Y1, 8 VCC

## Gatter XOR1x SN74LVC1G86
designator U?, comment XOR
footprint SOT23-5
part A pins: 1 A, 2 B, 4 Y
part B pins: 3 GND, 5 VCC

## H3LIS331DL
designator U?
MEMS motion sensor: low-power high-g 3-axis digital accelerometer
footprint LGA16_0.5mm_5/3 (LGA16 with 0.5mm spacing and 5 resp. 3 pins)
pins: 1 Vdd_IO (power), 2 NC, 3 NC, 4 SCL/SPC (in), 5 GND (power), 6 SDA/SDI/SDO (io), 7 SDO/SA0 (out), 8 CS (in), 9 INT2 (out), 10 Reserved, 11 INT1 (out), 12 GND (power), 13 GND (power), 14 Vdd (power), 15 Reserved, 16 GND (power)

## HM-TRP-868
designator *
Telemetriemodul
pins: 1 VCC (power), 2 DTX (power), 3 GND (power), 4 DRX (power), 5 CONFIG (power), 6 ENABLE (power), 7 TEST (power), 8 ANT (power), 9 GND (power)

## ICL7665S
designator U?
footprint SO-8
pins: 1 OUT1, 2 HYST1, 3 SET1, 4 GND, 5 HYST2, 6 SET2, 7 OUT2, 8 V+

## ICM-20601
designator U?
World’s First Wide-Range 6-Axis MotionTracking Device for High Speed Applications
footprint LGA16_0.5mm_5/3 (LGA16 with 0.5mm spacing and 5 resp. 3 pins)
pins: 1 Vdd_IO, 2 SCL/SCK (in), 3 SDA/SDI (io), 4 AD0/SDO (in), 5 CS (in), 6 INT (out), 7 RESV, 8 FSYNC (in), 9 RESV, 10 RESV, 11 RESV, 12 RESV, 13 GND, 14 REGOUT (power), 15 RESV, 16 VDD

## INA159
designator U?
DIFFERENCE AMPLIFIER, Precision Gain of 0.2 Level Translation
footprint VSSOP8_DGK
pins: 1 REF 1, 2 IN-, 3 IN+, 4 V-, 5 SENSE, 6 OUT, 7 V+, 8 REF 2

## INA240
designator U?  Supplier Part Number 1: 2677108
Current-Sense Amplifier, High- and Low-Side, Bidirectional, Zero-Drift; Supplier 1: Farnell
footprint VSSOP8_DGK
pins: 1 NC, 2 IN+, 3 IN-, 4 GND, 5 VS, 6 REF2, 7 REF1, 8 OUT

## Inverter
designator U?, comment TC4S584F,LF  (value not drawn)
footprint SC-70-5
part A pins: 2 A, 4 Out
part B pins: 3, 5 +

## ISO1042
designator U?
Isolated CAN Transceiver With 70-V Bus Fault Protection and Flexible Data Rate
footprint SOIC8_reduced (Für ADUM da 4mm Distanz zwischen TS und LV)
pins: 1 VCC1 (power), 2 TXD (in), 3 RXD (out), 4 GND1 (power), 5 GND2 (power), 6 CANL (io), 7 CANH (io), 8 VCC2 (power)

## ISP
designator J?  (value not drawn)
ISP for Atmel
footprint DIN06SMD
pins: 1, 2, 3, 4, 5, 6